# Altium schematic symbol library Ancient Schematics.SchLib: 609 symbols (part 1 of 3)
Pins are listed as number, name and electrical type; pins without a type are passive.

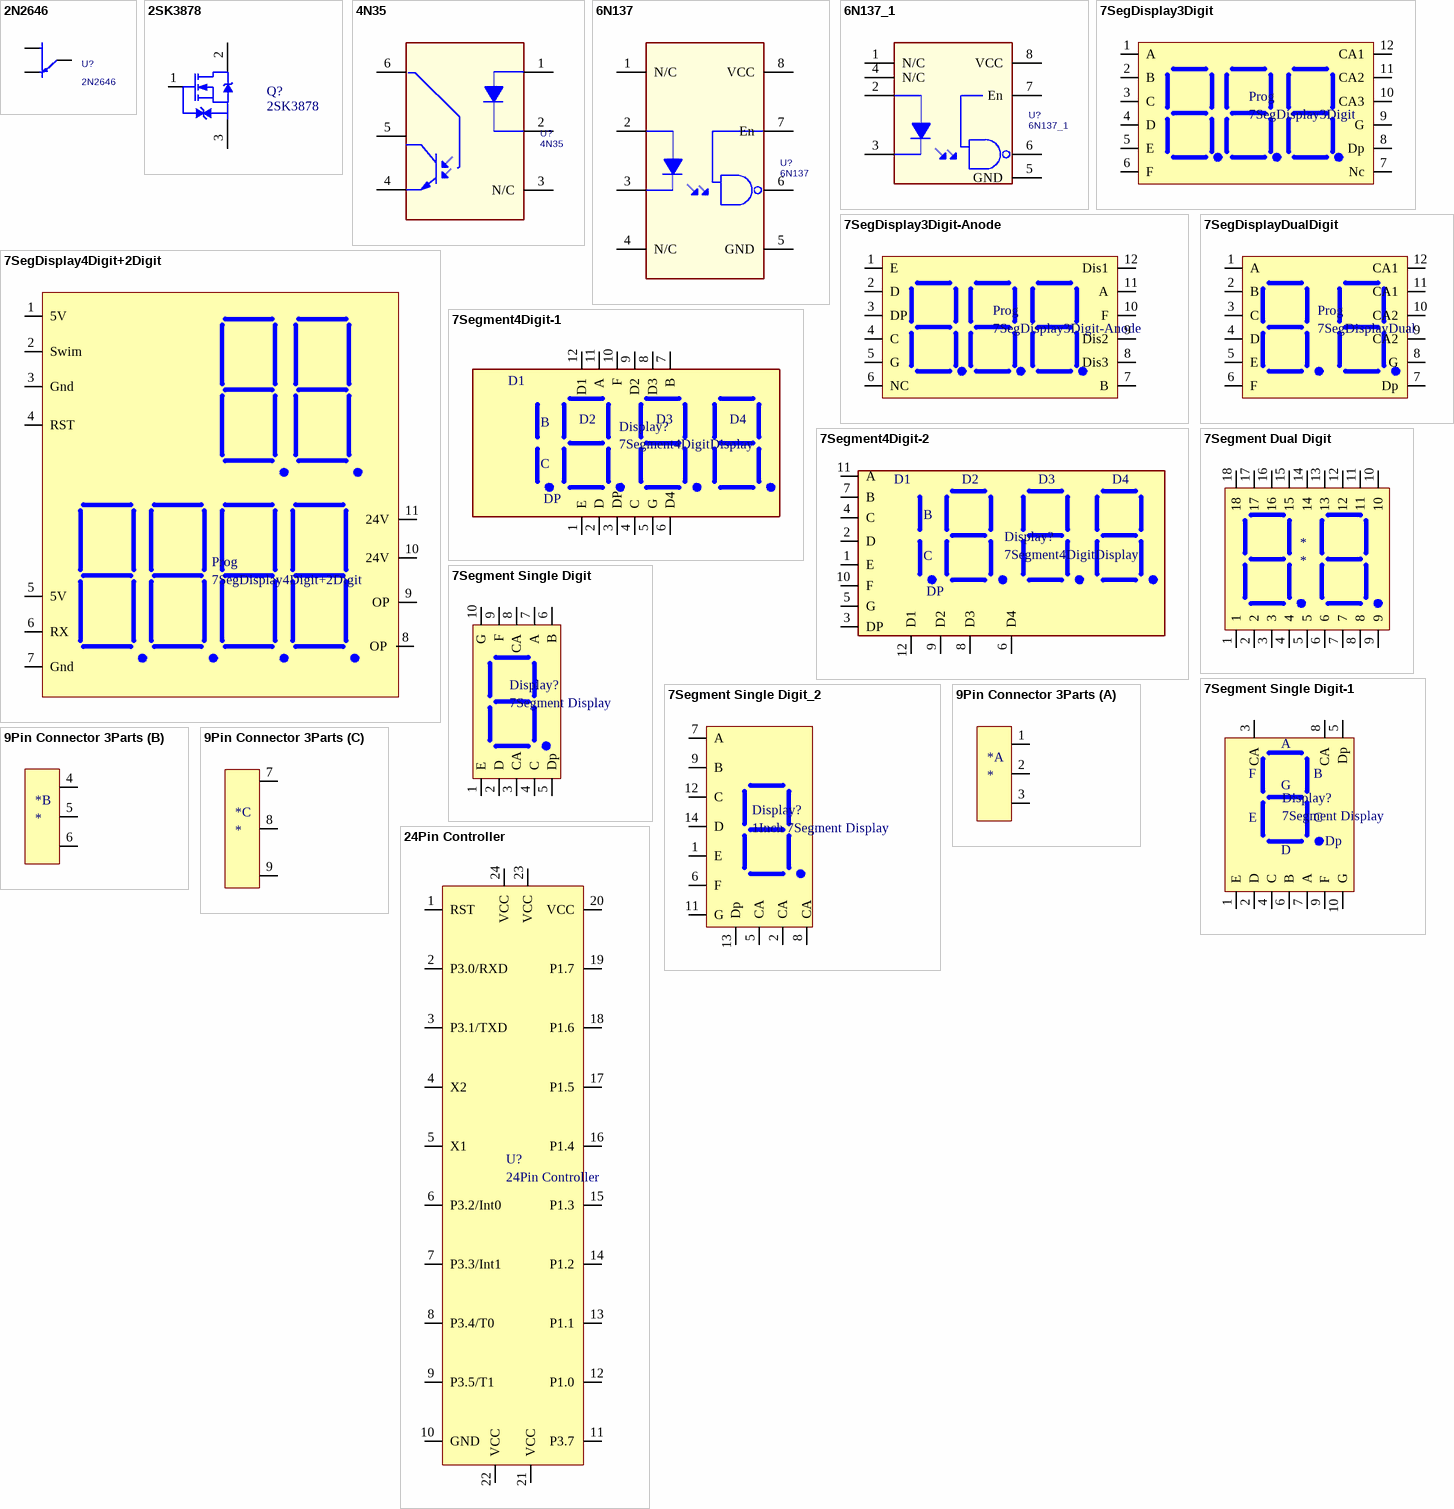
[diagram p0: symbols 2N2646 to 24Pin Controller]

## 2N2646
designator U?
footprint 2N2646 (2N2646 UJT)
pins: 1 EMITTER, 2 Base1, 3 Base2

## 2SK3878
designator Q?
2SK3878-High Voltage N Channel MOSFET
pins: 1 G, 2 D, 3 S

## 4N35
designator U?
pins: 1 A, 2 C, 3 N/C, 4 EMIT, 5 COL, 6 Base

## 6N137
designator U?
pins: 1 N/C, 2 C, 3 A, 4 N/C, 5 GND, 6 Base, 7 En, 8 VCC

## 6N137_1
designator U?
footprint Dip-8
pins: 1 N/C, 2 C, 3 A, 4 N/C, 5 GND, 6 Base, 7 En, 8 VCC

## 7SegDisplay3Digit
designator Prog
footprint 7Sigment3Digit (Footprint not found)
pins: 1 A, 2 B, 3 C, 4 D, 5 E, 6 F, 7 Nc, 8 Dp, 9 G, 10 CA3, 11 CA2, 12 CA1

## 7SegDisplay3Digit-Anode
designator Prog
footprint 7Seg3Digit-A (7Seg3Digit 38MM X 19MM)
pins: 1 E, 2 D, 3 DP, 4 C, 5 G, 6 NC, 7 B, 8 Dis3, 9 Dis2, 10 F, 11 A, 12 Dis1

## 7SegDisplay4Digit+2Digit
designator Prog
footprint MT318-7Seg4Digit+2Digit
pins: 1 5V, 2 Swim, 3 Gnd, 4 RST, 5 5V, 6 RX, 7 Gnd, 8 OP, 9 OP, 10 24V, 11 24V

## 7SegDisplayDualDigit
designator Prog, comment 7SegDisplayDual
footprint 7SigmentSingleDisplay
pins: 1 A, 2 B, 3 C, 4 D, 5 E, 6 F, 7 Dp, 8 G, 9 CA2, 10 CA2, 11 CA1, 12 CA1

## 7Segment4Digit-1
designator Display?, comment 7Segment4DigitDisplay
pins: 1 E, 2 D, 3 DP, 4 C, 5 G, 6 D4, 7 B, 8 D3, 9 D2, 10 F, 11 A, 12 D1

## 7Segment4Digit-2
designator Display?, comment 7Segment4DigitDisplay
pins: 1 E, 2 D, 3 DP, 4 C, 5 G, 6 D4, 7 B, 8 D3, 9 D2, 10 F, 11 A, 12 D1

## 7Segment Dual Digit
designator *
pins: 1, 2, 3, 4, 5, 6, 7, 8, 9, 10, 11, 12, 13, 14, 15, 16, 17, 18

## 7Segment Single Digit
designator Display?, comment 7Segment Display
pins: 1 E, 2 D, 3 CA, 4 C, 5 Dp, 6 B, 7 A, 8 CA, 9 F, 10 G

## 7Segment Single Digit-1
designator Display?, comment 7Segment Display
pins: 1 E, 2 D, 3 CA, 4 C, 5 Dp, 6 B, 7 A, 8 CA, 9 F, 10 G

## 7Segment Single Digit_2
designator Display?, comment 1Inch 7Segment Display
footprint 7Seg-1Inch - 1 (7Seg-1Inch (Big Display))
pins: 1 E, 2 CA, 5 CA, 6 F, 7 A, 8 CA, 9 B, 11 G, 12 C, 13 Dp, 14 D

## 9Pin Connector 3Parts
designator *
part A pins: 1, 2, 3
part B pins: 4, 5, 6
part C pins: 7, 8, 9

## 24Pin Controller
designator U?
footprint Dip-24 (IC Base 24Pin)
pins: 1 RST, 2 P3.0/RXD, 3 P3.1/TXD, 4 X2, 5 X1, 6 P3.2/Int0, 7 P3.3/Int1, 8 P3.4/T0, 9 P3.5/T1, 10 GND, 11 P3.7, 12 P1.0, 13 P1.1, 14 P1.2, 15 P1.3, 16 P1.4, 17 P1.5, 18 P1.6, 19 P1.7, 20 VCC, 21 VCC, 22 VCC, 23 VCC, 24 VCC

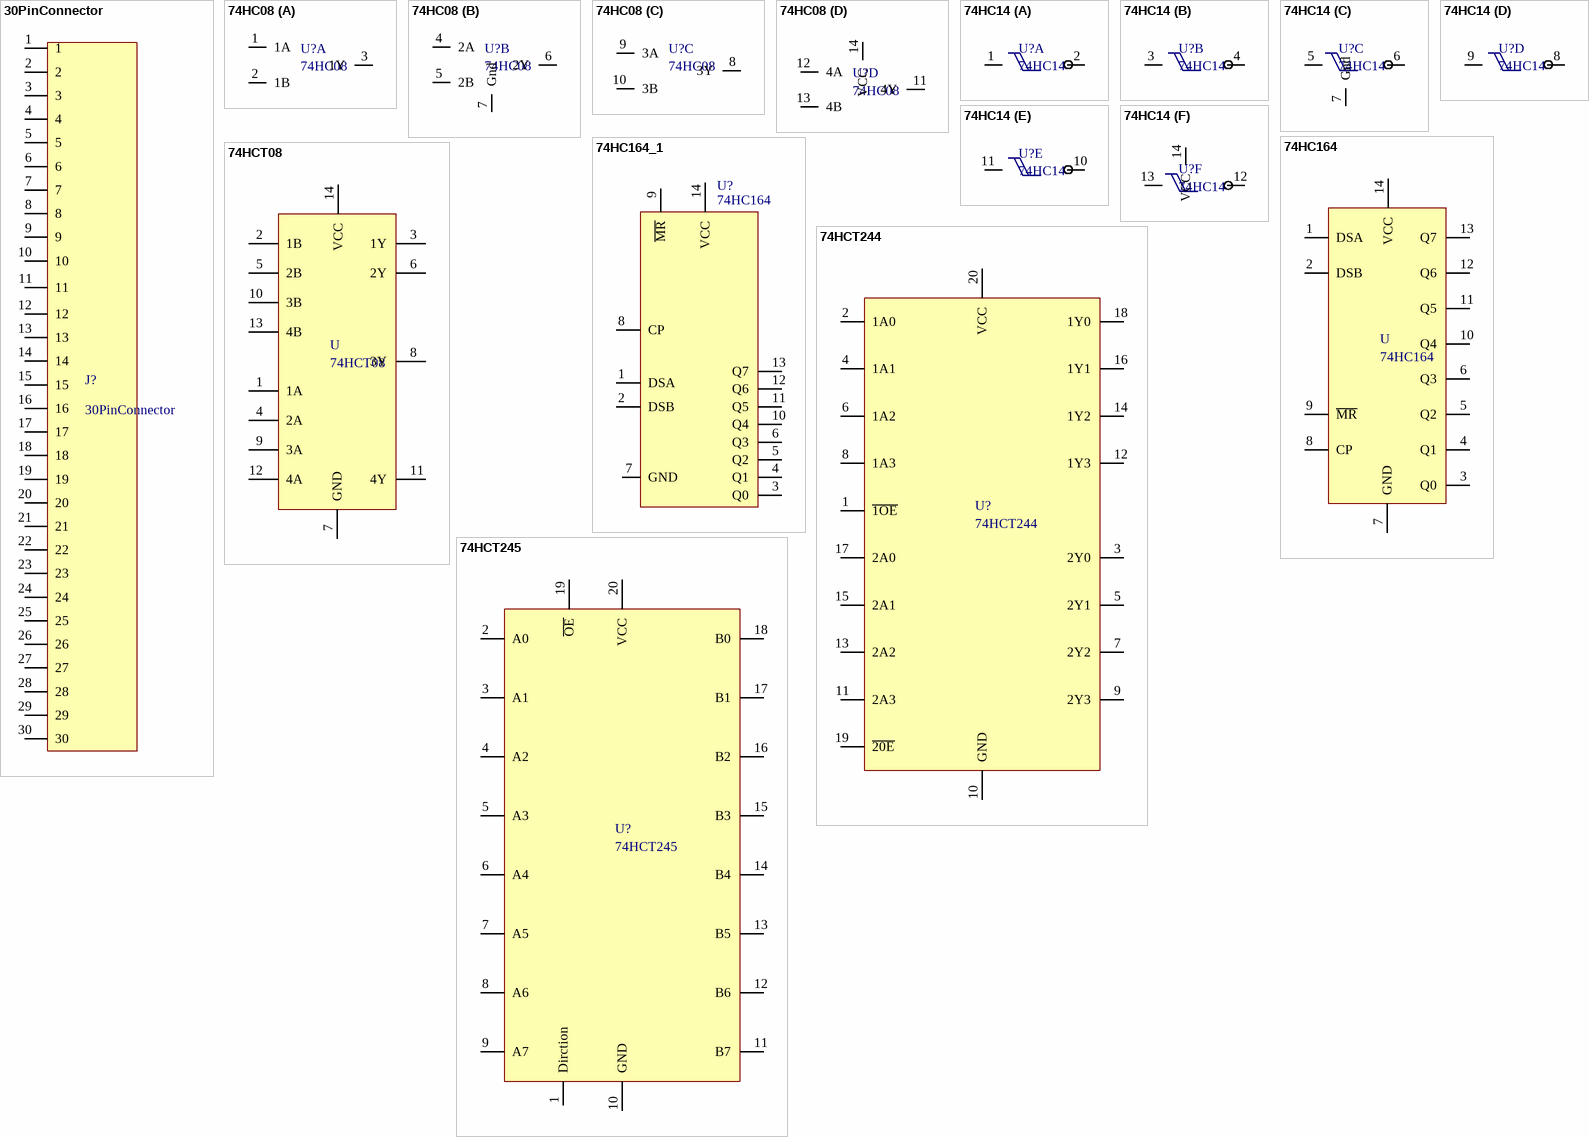
[diagram p1: symbols 30PinConnector to 74HCT245]

## 30PinConnector
designator J?
pins: 1, 2, 3, 4, 5, 6, 7, 8, 9, 10, 11, 12, 13, 14, 15, 16, 17, 18, 19, 20, 21, 22, 23, 24, 25, 26, 27, 28, 29, 30

## 74HC08
designator U?
footprint SOP-14
part A pins: 1 1A, 2 1B, 3 1Y
part B pins: 4 2A, 5 2B, 6 2Y, 7 Gnd
part C pins: 8 3Y, 9 3A, 10 3B
part D pins: 11 4Y, 12 4A, 13 4B, 14 VCC

## 74HC14
designator U?
footprint SOP-14
part A pins: 1, 2
part B pins: 3, 4
part C pins: 5, 6, 7 Gnd
part D pins: 8, 9
part E pins: 10, 11
part F pins: 12, 13, 14 VCC

## 74HC164
designator U
pins: 1 DSA, 2 DSB, 3 Q0, 4 Q1, 5 Q2, 6 Q3, 7 GND, 8 CP, 9 ~{MR}, 10 Q4, 11 Q5, 12 Q6, 13 Q7, 14 VCC

## 74HC164_1
designator U?, comment 74HC164
footprint SOP-14
pins: 1 DSA, 2 DSB, 3 Q0, 4 Q1, 5 Q2, 6 Q3, 7 GND, 8 CP, 9 ~{MR}, 10 Q4, 11 Q5, 12 Q6, 13 Q7, 14 VCC

## 74HCT08
designator U
pins: 1 1A, 2 1B, 3 1Y, 4 2A, 5 2B, 6 2Y, 7 GND, 8 3Y, 9 3A, 10 3B, 11 4Y, 12 4A, 13 4B, 14 VCC

## 74HCT244
designator U?
pins: 1 ~{1OE}, 2 1A0, 3 2Y0, 4 1A1, 5 2Y1, 6 1A2, 7 2Y2, 8 1A3, 9 2Y3, 10 GND, 11 2A3, 12 1Y3, 13 2A2, 14 1Y2, 15 2A1, 16 1Y1, 17 2A0, 18 1Y0, 19 ~{20E}, 20 VCC

## 74HCT245
designator U?
pins: 1 Dirction, 2 A0, 3 A1, 4 A2, 5 A3, 6 A4, 7 A5, 8 A6, 9 A7, 10 GND, 11 B7, 12 B6, 13 B5, 14 B4, 15 B3, 16 B2, 17 B1, 18 B0, 19 ~{OE}, 20 VCC

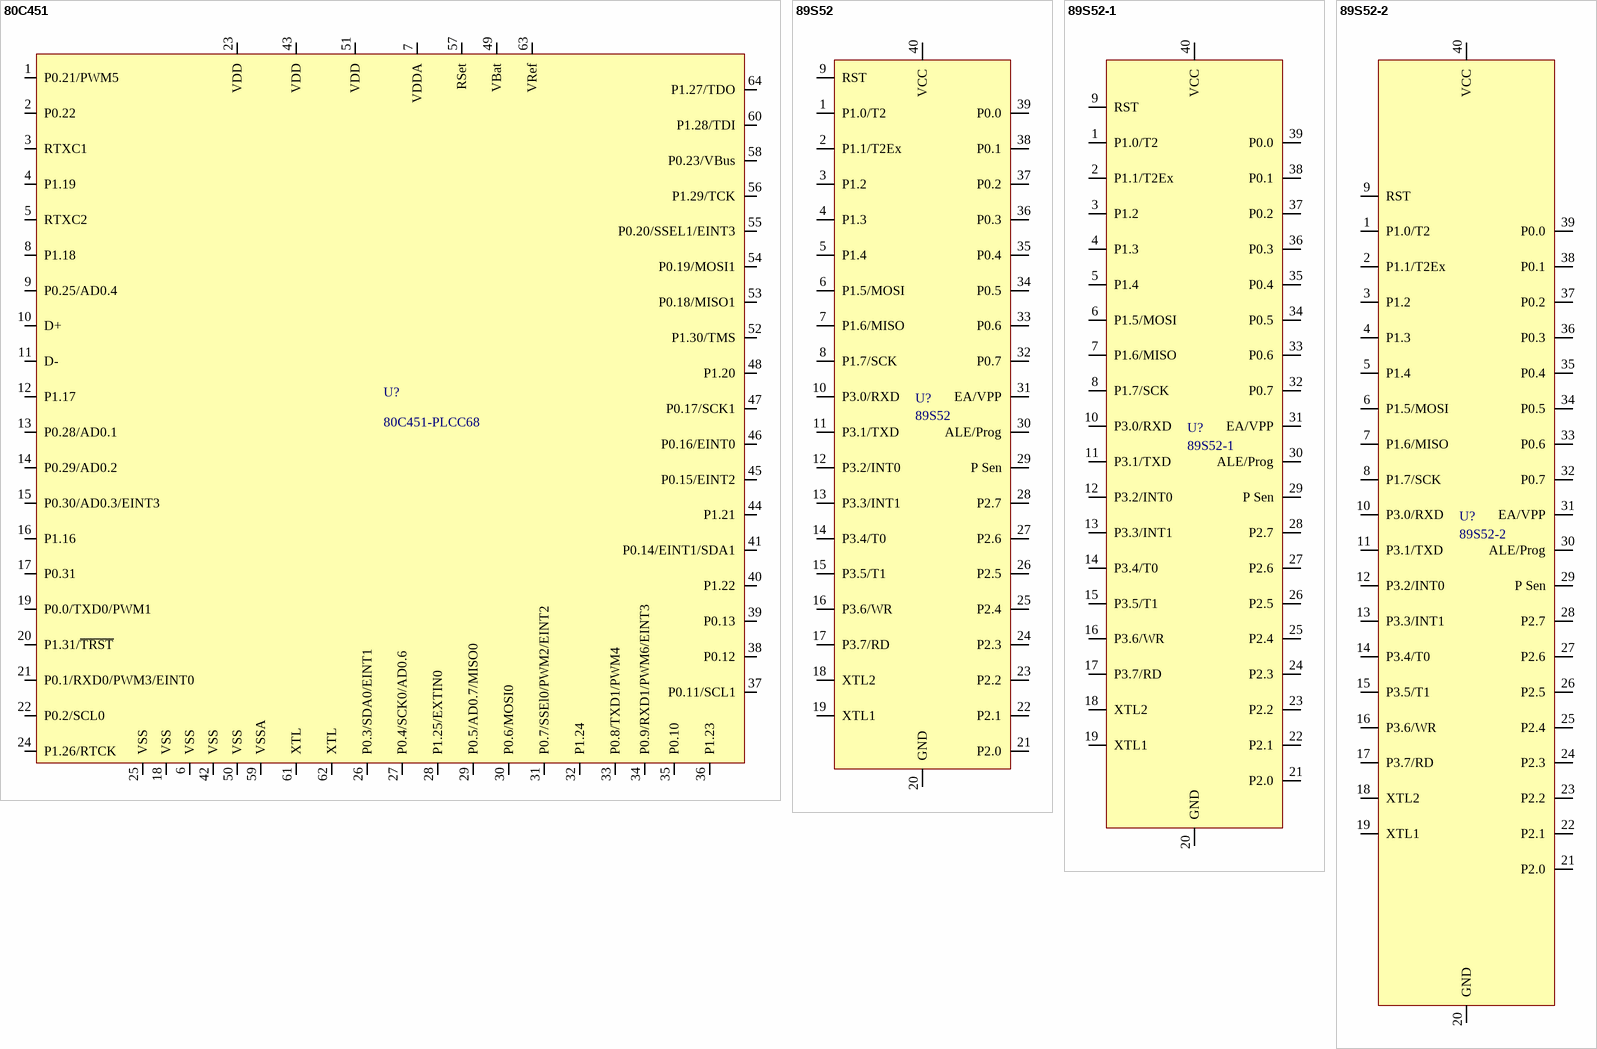
[diagram p2: symbols 80C451 to 89S52-2]

## 80C451
designator U?, comment 80C451-PLCC68
pins: 1 P0.21/PWM5, 2 P0.22, 3 RTXC1, 4 P1.19, 5 RTXC2, 6 VSS, 7 VDDA, 8 P1.18, 9 P0.25/AD0.4, 10 D+, 11 D-, 12 P1.17, 13 P0.28/AD0.1, 14 P0.29/AD0.2, 15 P0.30/AD0.3/EINT3, 16 P1.16, 17 P0.31, 18 VSS, 19 P0.0/TXD0/PWM1, 20 P1.31/~{TRST}, 21 P0.1/RXD0/PWM3/EINT0, 22 P0.2/SCL0, 23 VDD, 24 P1.26/RTCK, 25 VSS, 26 P0.3/SDA0/EINT1, 27 P0.4/SCK0/AD0.6, 28 P1.25/EXTIN0, 29 P0.5/AD0.7/MISO0, 30 P0.6/MOSI0, 31 P0.7/SSEl0/PWM2/EINT2, 32 P1.24, 33 P0.8/TXD1/PWM4, 34 P0.9/RXD1/PWM6/EINT3, 35 P0.10, 36 P1.23, 37 P0.11/SCL1, 38 P0.12, 39 P0.13, 40 P1.22, 41 P0.14/EINT1/SDA1, 42 VSS, 43 VDD, 44 P1.21, 45 P0.15/EINT2, 46 P0.16/EINT0, 47 P0.17/SCK1, 48 P1.20, 49 VBat, 50 VSS, 51 VDD, 52 P1.30/TMS, 53 P0.18/MISO1, 54 P0.19/MOSI1, 55 P0.20/SSEL1/EINT3, 56 P1.29/TCK, 57 RSet, 58 P0.23/VBus, 59 VSSA, 60 P1.28/TDI, 61 XTL, 62 XTL, 63 VRef, 64 P1.27/TDO

## 89S52
designator U?
footprint DIP-40
pins: 1 P1.0/T2, 2 P1.1/T2Ex, 3 P1.2, 4 P1.3, 5 P1.4, 6 P1.5/MOSI, 7 P1.6/MISO, 8 P1.7/SCK, 9 RST, 10 P3.0/RXD, 11 P3.1/TXD, 12 P3.2/INT0, 13 P3.3/INT1, 14 P3.4/T0, 15 P3.5/T1, 16 P3.6/WR, 17 P3.7/RD, 18 XTL2, 19 XTL1, 20 GND, 21 P2.0, 22 P2.1, 23 P2.2, 24 P2.3, 25 P2.4, 26 P2.5, 27 P2.6, 28 P2.7, 29 P Sen, 30 ALE/Prog, 31 EA/VPP, 32 P0.7, 33 P0.6, 34 P0.5, 35 P0.4, 36 P0.3, 37 P0.2, 38 P0.1, 39 P0.0, 40 VCC

## 89S52-1
designator U?
footprint DIP-40
pins: 1 P1.0/T2, 2 P1.1/T2Ex, 3 P1.2, 4 P1.3, 5 P1.4, 6 P1.5/MOSI, 7 P1.6/MISO, 8 P1.7/SCK, 9 RST, 10 P3.0/RXD, 11 P3.1/TXD, 12 P3.2/INT0, 13 P3.3/INT1, 14 P3.4/T0, 15 P3.5/T1, 16 P3.6/WR, 17 P3.7/RD, 18 XTL2, 19 XTL1, 20 GND, 21 P2.0, 22 P2.1, 23 P2.2, 24 P2.3, 25 P2.4, 26 P2.5, 27 P2.6, 28 P2.7, 29 P Sen, 30 ALE/Prog, 31 EA/VPP, 32 P0.7, 33 P0.6, 34 P0.5, 35 P0.4, 36 P0.3, 37 P0.2, 38 P0.1, 39 P0.0, 40 VCC

## 89S52-2
designator U?
footprint DIP-40
pins: 1 P1.0/T2, 2 P1.1/T2Ex, 3 P1.2, 4 P1.3, 5 P1.4, 6 P1.5/MOSI, 7 P1.6/MISO, 8 P1.7/SCK, 9 RST, 10 P3.0/RXD, 11 P3.1/TXD, 12 P3.2/INT0, 13 P3.3/INT1, 14 P3.4/T0, 15 P3.5/T1, 16 P3.6/WR, 17 P3.7/RD, 18 XTL2, 19 XTL1, 20 GND, 21 P2.0, 22 P2.1, 23 P2.2, 24 P2.3, 25 P2.4, 26 P2.5, 27 P2.6, 28 P2.7, 29 P Sen, 30 ALE/Prog, 31 EA/VPP, 32 P0.7, 33 P0.6, 34 P0.5, 35 P0.4, 36 P0.3, 37 P0.2, 38 P0.1, 39 P0.0, 40 VCC

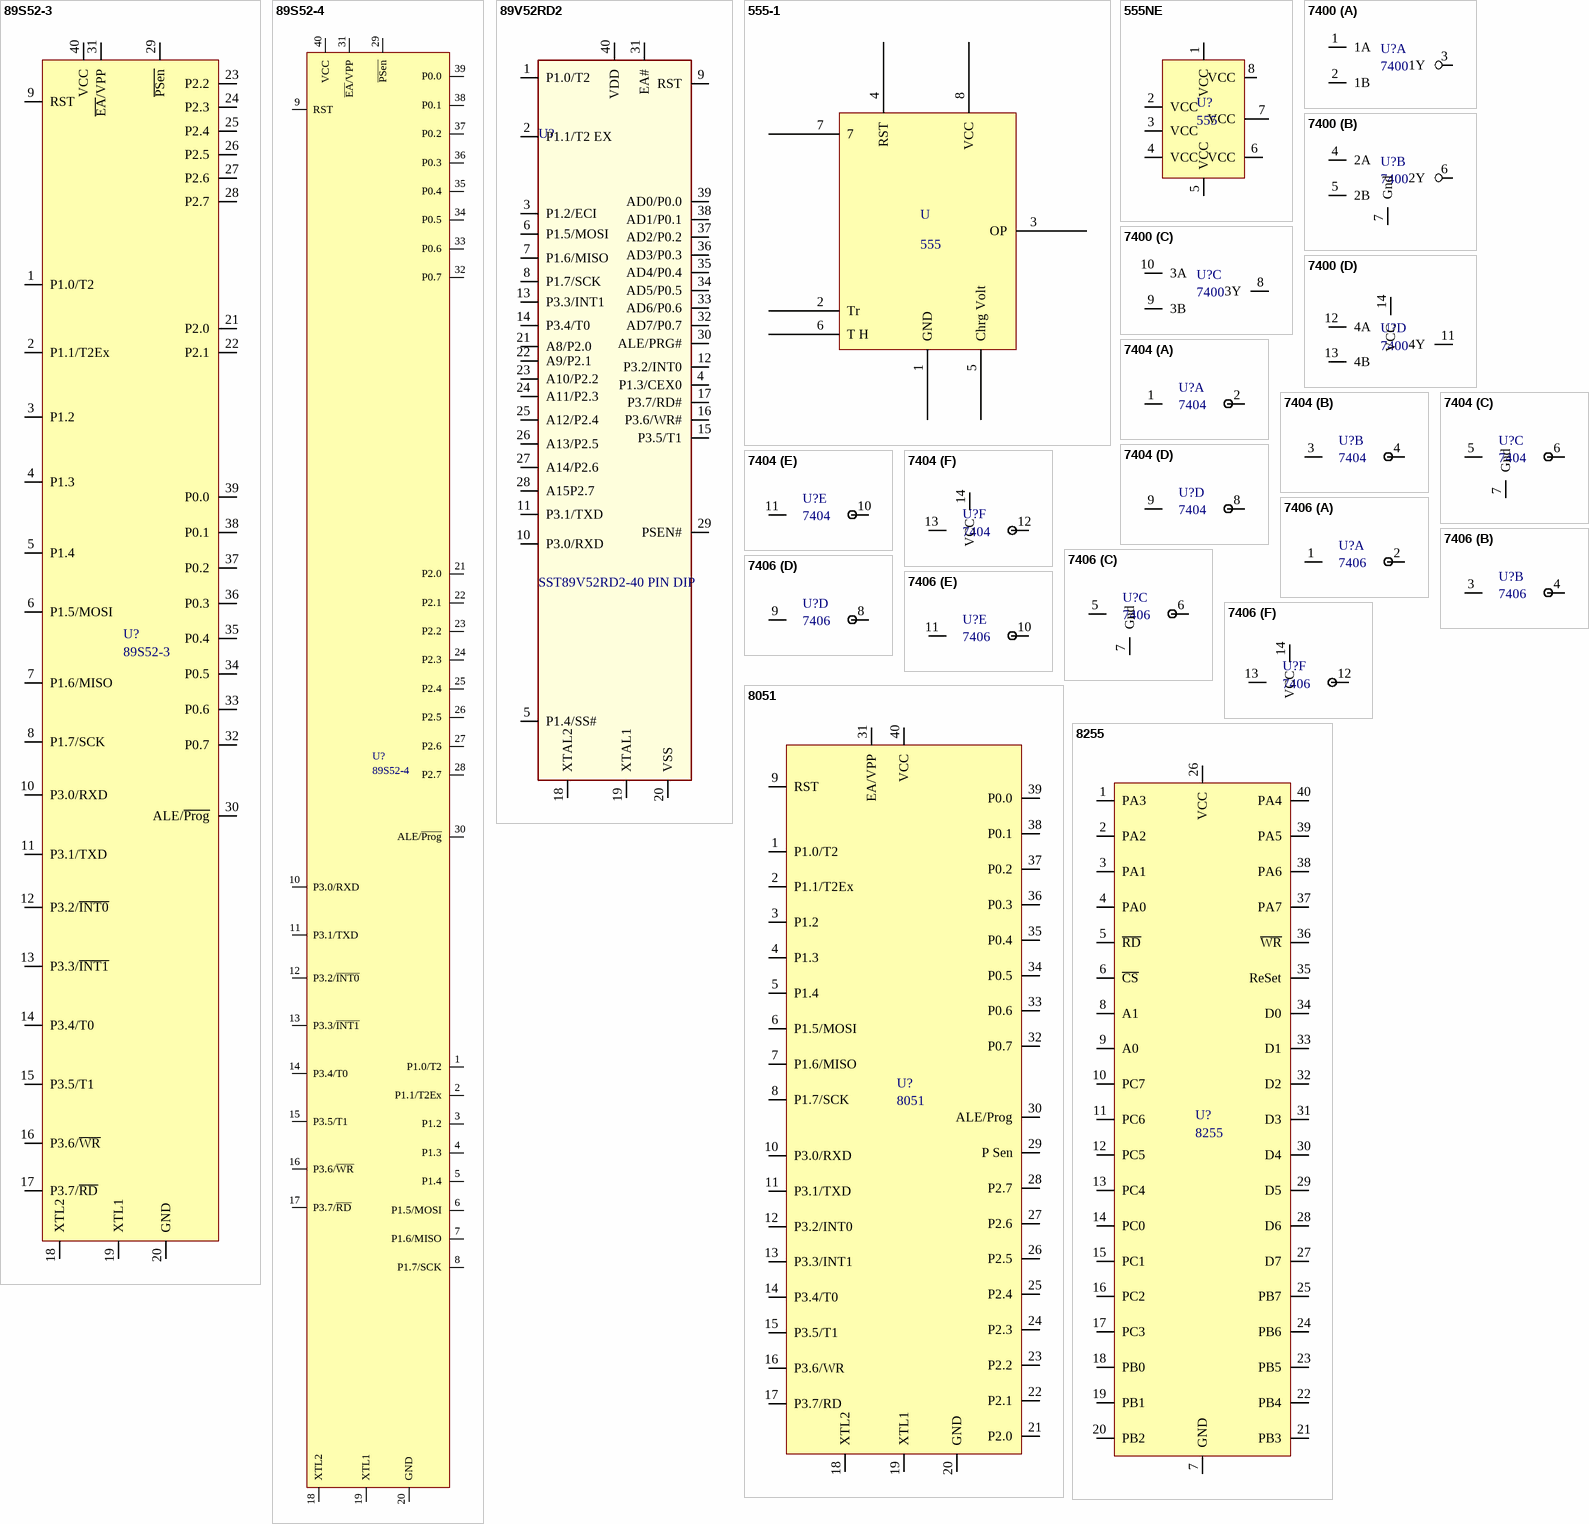
[diagram p3: symbols 89S52-3 to 8255]

## 89S52-3
designator U?
footprint DIP-40
pins: 1 P1.0/T2, 2 P1.1/T2Ex, 3 P1.2, 4 P1.3, 5 P1.4, 6 P1.5/MOSI, 7 P1.6/MISO, 8 P1.7/SCK, 9 RST, 10 P3.0/RXD, 11 P3.1/TXD, 12 P3.2/~{INT0}, 13 P3.3/~{INT1}, 14 P3.4/T0, 15 P3.5/T1, 16 P3.6/~{WR}, 17 P3.7/~{RD}, 18 XTL2, 19 XTL1, 20 GND, 21 P2.0, 22 P2.1, 23 P2.2, 24 P2.3, 25 P2.4, 26 P2.5, 27 P2.6, 28 P2.7, 29 ~{PSen}, 30 ALE/~{Prog}, 31 ~{EA}/VPP, 32 P0.7, 33 P0.6, 34 P0.5, 35 P0.4, 36 P0.3, 37 P0.2, 38 P0.1, 39 P0.0, 40 VCC

## 89S52-4
designator U?
footprint DIP-40
pins: 1 P1.0/T2, 2 P1.1/T2Ex, 3 P1.2, 4 P1.3, 5 P1.4, 6 P1.5/MOSI, 7 P1.6/MISO, 8 P1.7/SCK, 9 RST, 10 P3.0/RXD, 11 P3.1/TXD, 12 P3.2/~{INT0}, 13 P3.3/~{INT1}, 14 P3.4/T0, 15 P3.5/T1, 16 P3.6/~{WR}, 17 P3.7/~{RD}, 18 XTL2, 19 XTL1, 20 GND, 21 P2.0, 22 P2.1, 23 P2.2, 24 P2.3, 25 P2.4, 26 P2.5, 27 P2.6, 28 P2.7, 29 ~{PSen}, 30 ALE/~{Prog}, 31 ~{EA}/VPP, 32 P0.7, 33 P0.6, 34 P0.5, 35 P0.4, 36 P0.3, 37 P0.2, 38 P0.1, 39 P0.0, 40 VCC

## 89V52RD2
designator U?, comment SST89V52RD2-40 PIN DIP
footprint DIP-40
pins: 1 P1.0/T2, 2 P1.1/T2 EX, 3 P1.2/ECI, 4 P1.3/CEX0, 5 P1.4/SS#, 6 P1.5/MOSI, 7 P1.6/MISO, 8 P1.7/SCK, 9 RST, 10 P3.0/RXD, 11 P3.1/TXD, 12 P3.2/INT0, 13 P3.3/INT1, 14 P3.4/T0, 15 P3.5/T1, 16 P3.6/WR#, 17 P3.7/RD#, 18 XTAL2, 19 XTAL1, 20 VSS, 21 A8/P2.0, 22 A9/P2.1, 23 A10/P2.2, 24 A11/P2.3, 25 A12/P2.4, 26 A13/P2.5, 27 A14/P2.6, 28 A15P2.7, 29 PSEN#, 30 ALE/PRG#, 31 EA#, 32 AD7/P0.7, 33 AD6/P0.6, 34 AD5/P0.5, 35 AD4/P0.4, 36 AD3/P0.3, 37 AD2/P0.2, 38 AD1/P0.1, 39 AD0/P0.0, 40 VDD

## 555-1
designator U, comment 555
pins: 1 GND, 2 Tr, 3 OP, 4 RST, 5 Chrg Volt, 6 T H, 7, 8 VCC

## 555NE
designator U?, comment 555
footprint Dip-8
footprint SOP-8 (SOP-8 ,1232,24C256)
pins: 1 VCC, 2 VCC, 3 VCC, 4 VCC, 5 VCC, 6 VCC, 7 VCC, 8 VCC

## 7400
designator U?
footprint SOP-14
part A pins: 1 1A, 2 1B, 3 1Y
part B pins: 4 2A, 5 2B, 6 2Y, 7 Gnd
part C pins: 8 3Y, 9 3B, 10 3A
part D pins: 11 4Y, 12 4A, 13 4B, 14 VCC

## 7404
designator U?
footprint SOP-14
part A pins: 1, 2
part B pins: 3, 4
part C pins: 5, 6, 7 Gnd
part D pins: 8, 9
part E pins: 10, 11
part F pins: 12, 13, 14 VCC

## 7406
designator U?
footprint SOP-14
part A pins: 1, 2
part B pins: 3, 4
part C pins: 5, 6, 7 Gnd
part D pins: 8, 9
part E pins: 10, 11
part F pins: 12, 13, 14 VCC

## 8051
designator U?
footprint DIP-40
pins: 1 P1.0/T2, 2 P1.1/T2Ex, 3 P1.2, 4 P1.3, 5 P1.4, 6 P1.5/MOSI, 7 P1.6/MISO, 8 P1.7/SCK, 9 RST, 10 P3.0/RXD, 11 P3.1/TXD, 12 P3.2/INT0, 13 P3.3/INT1, 14 P3.4/T0, 15 P3.5/T1, 16 P3.6/WR, 17 P3.7/RD, 18 XTL2, 19 XTL1, 20 GND, 21 P2.0, 22 P2.1, 23 P2.2, 24 P2.3, 25 P2.4, 26 P2.5, 27 P2.6, 28 P2.7, 29 P Sen, 30 ALE/Prog, 31 EA/VPP, 32 P0.7, 33 P0.6, 34 P0.5, 35 P0.4, 36 P0.3, 37 P0.2, 38 P0.1, 39 P0.0, 40 VCC

## 8255
designator U?
footprint DIP-40
pins: 1 PA3, 2 PA2, 3 PA1, 4 PA0, 5 ~{RD}, 6 ~{CS}, 7 GND, 8 A1, 9 A0, 10 PC7, 11 PC6, 12 PC5, 13 PC4, 14 PC0, 15 PC1, 16 PC2, 17 PC3, 18 PB0, 19 PB1, 20 PB2, 21 PB3, 22 PB4, 23 PB5, 24 PB6, 25 PB7, 26 VCC, 27 D7, 28 D6, 29 D5, 30 D4, 31 D3, 32 D2, 33 D1, 34 D0, 35 ReSet, 36 ~{WR}, 37 PA7, 38 PA6, 39 PA5, 40 PA4

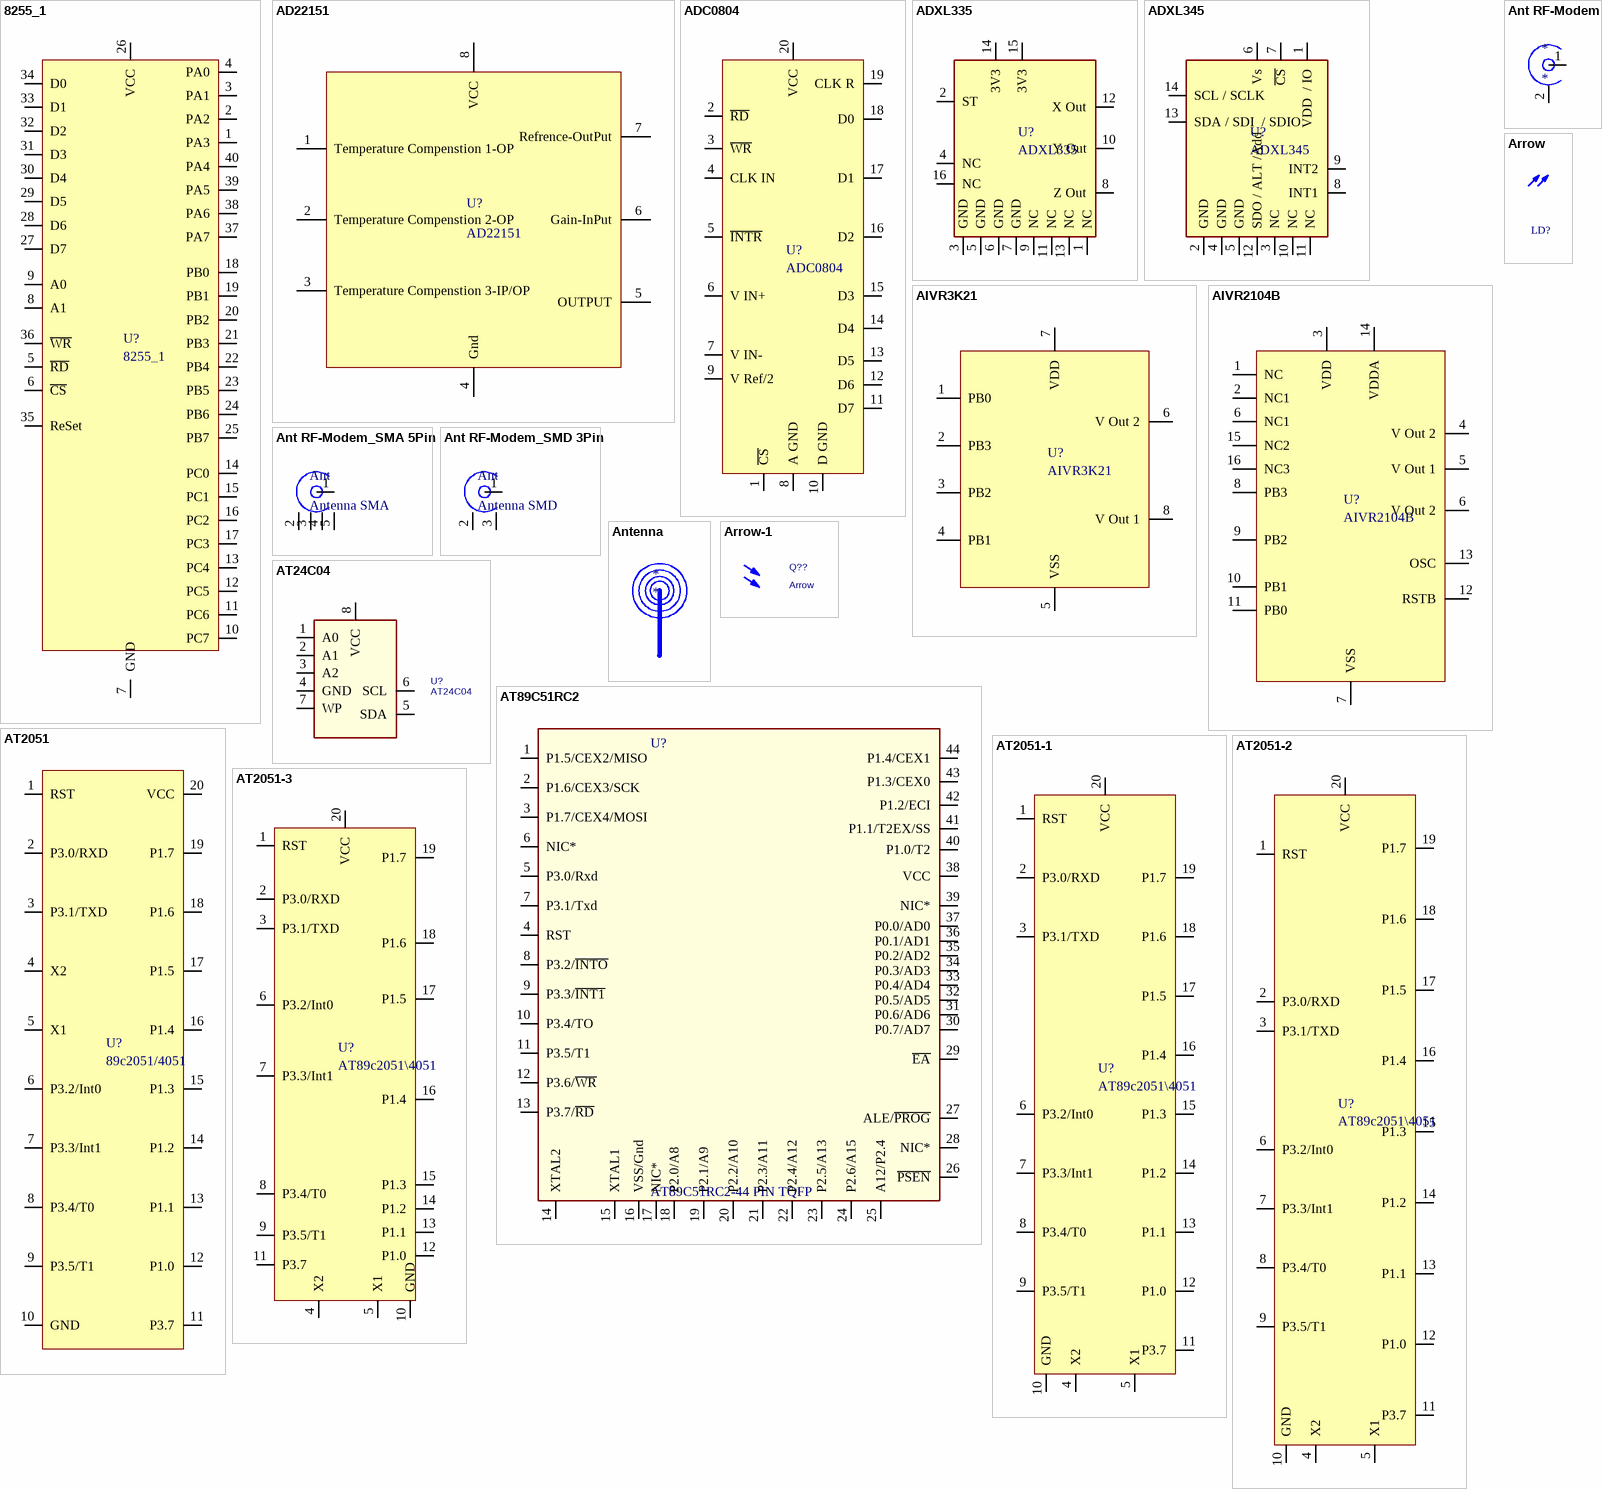
[diagram p4: symbols 8255_1 to AT2051-3]

## 8255_1
designator U?
footprint DIP-40
pins: 1 PA3, 2 PA2, 3 PA1, 4 PA0, 5 ~{RD}, 6 ~{CS}, 7 GND, 8 A1, 9 A0, 10 PC7, 11 PC6, 12 PC5, 13 PC4, 14 PC0, 15 PC1, 16 PC2, 17 PC3, 18 PB0, 19 PB1, 20 PB2, 21 PB3, 22 PB4, 23 PB5, 24 PB6, 25 PB7, 26 VCC, 27 D7, 28 D6, 29 D5, 30 D4, 31 D3, 32 D2, 33 D1, 34 D0, 35 ReSet, 36 ~{WR}, 37 PA7, 38 PA6, 39 PA5, 40 PA4

## AD22151
designator U?
footprint sop-8 (SOP-8 ,1232,24C256)
pins: 1 Temperature Compenstion 1-OP, 2 Temperature Compenstion 2-OP, 3 Temperature Compenstion 3-IP/OP, 4 Gnd, 5 OUTPUT, 6 Gain-InPut, 7 Refrence-OutPut, 8 VCC

## ADC0804
designator U?
footprint Dip-20 (IC Base 20Pin)
pins: 1 ~{CS}, 2 ~{RD}, 3 ~{WR}, 4 CLK IN, 5 ~{INTR}, 6 V IN+, 7 V IN-, 8 A GND, 9 V Ref/2, 10 D GND, 11 D7, 12 D6, 13 D5, 14 D4, 15 D3, 16 D2, 17 D1, 18 D0, 19 CLK R, 20 VCC

## ADXL335
designator U?
pins: 1 NC, 2 ST, 3 GND, 4 NC, 5 GND, 6 GND, 7 GND, 8 Z Out, 9 NC, 10 Y Out, 11 NC, 12 X Out, 13 NC, 14 3V3, 15 3V3, 16 NC

## ADXL345
designator U?
pins: 1 VDD  / IO, 2 GND, 3 NC, 4 GND, 5 GND, 6 Vs, 7 ~{CS}, 8 INT1, 9 INT2, 10 NC, 11 NC, 12 SDO / ALT /Add, 13 SDA / SDI  / SDIO, 14 SCL / SCLK

## AIVR3K21
designator U?
footprint Dip-8
pins: 1 PB0, 2 PB3, 3 PB2, 4 PB1, 5 VSS, 6 V Out 2, 7 VDD, 8 V Out 1

## AIVR2104B
designator U?
footprint Dip-16
pins: 1 NC, 2 NC1, 3 VDD, 4 V Out 2, 5 V Out 1, 6 V Out 2, 6 NC1, 7 VSS, 8 PB3, 9 PB2, 10 PB1, 11 PB0, 12 RSTB, 13 OSC, 14 VDDA, 15 NC2, 16 NC3

## Ant RF-Modem
designator *
pins: 1, 2

## Ant RF-Modem_SMA 5Pin
designator Ant, comment Antenna SMA
pins: 1, 2, 3, 4, 5

## Ant RF-Modem_SMD 3Pin
designator Ant, comment Antenna SMD
footprint Ant-SMD 3Pin
pins: 1, 2, 3

## Antenna
designator *

## Arrow
designator LD?  (value not drawn)  (graphical)

## Arrow-1
designator Q??, comment Arrow  (graphical)
PhotoTransistor

## AT24C04
designator U?
I2C
footprint Dip-8
pins: 1 A0, 2 A1, 3 A2, 4 GND, 5 SDA, 6 SCL, 7 WP, 8 VCC

## AT89C51RC2
designator U?, comment AT89C51RC2-44 PIN TQFP
89C51RC2-44 PIN TQFP
footprint TQFP44 (Picth.8MM)
pins: 1 P1.5/CEX2/MISO, 2 P1.6/CEX3/SCK, 3 P1.7/CEX4/MOSI, 4 RST, 5 P3.0/Rxd, 6 NIC*, 7 P3.1/Txd, 8 P3.2/~{INTO}, 9 P3.3/~{INT1}, 10 P3.4/TO, 11 P3.5/T1, 12 P3.6/~{WR}, 13 P3.7/~{RD}, 14 XTAL2, 15 XTAL1, 16 VSS/Gnd, 17 NIC*, 18 P2.0/A8, 19 P2.1/A9, 20 P2.2/A10, 21 P2.3/A11, 22 P2.4/A12, 23 P2.5/A13, 24 P2.6/A15, 25 A12/P2.4, 26 ~{PSEN}, 27 ALE/~{PROG}, 28 NIC*, 29 ~{EA}, 30 P0.7/AD7, 31 P0.6/AD6, 32 P0.5/AD5, 33 P0.4/AD4, 34 P0.3/AD3, 35 P0.2/AD2, 36 P0.1/AD1, 37 P0.0/AD0, 38 VCC, 39 NIC*, 40 P1.0/T2, 41 P1.1/T2EX/SS, 42 P1.2/ECI, 43 P1.3/CEX0, 44 P1.4/CEX1

## AT2051
designator U?, comment 89c2051/4051
footprint Dip-20 (IC Base 20Pin)
pins: 1 RST, 2 P3.0/RXD, 3 P3.1/TXD, 4 X2, 5 X1, 6 P3.2/Int0, 7 P3.3/Int1, 8 P3.4/T0, 9 P3.5/T1, 10 GND, 11 P3.7, 12 P1.0, 13 P1.1, 14 P1.2, 15 P1.3, 16 P1.4, 17 P1.5, 18 P1.6, 19 P1.7, 20 VCC

## AT2051-1
designator U?, comment AT89c2051\4051
footprint Dip-20 (IC Base 20Pin)
pins: 1 RST, 2 P3.0/RXD, 3 P3.1/TXD, 4 X2, 5 X1, 6 P3.2/Int0, 7 P3.3/Int1, 8 P3.4/T0, 9 P3.5/T1, 10 GND, 11 P3.7, 12 P1.0, 13 P1.1, 14 P1.2, 15 P1.3, 16 P1.4, 17 P1.5, 18 P1.6, 19 P1.7, 20 VCC

## AT2051-2
designator U?, comment AT89c2051\4051
footprint Dip-20 (IC Base 20Pin)
pins: 1 RST, 2 P3.0/RXD, 3 P3.1/TXD, 4 X2, 5 X1, 6 P3.2/Int0, 7 P3.3/Int1, 8 P3.4/T0, 9 P3.5/T1, 10 GND, 11 P3.7, 12 P1.0, 13 P1.1, 14 P1.2, 15 P1.3, 16 P1.4, 17 P1.5, 18 P1.6, 19 P1.7, 20 VCC

## AT2051-3
designator U?, comment AT89c2051\4051
footprint Dip-20 (IC Base 20Pin)
pins: 1 RST, 2 P3.0/RXD, 3 P3.1/TXD, 4 X2, 5 X1, 6 P3.2/Int0, 7 P3.3/Int1, 8 P3.4/T0, 9 P3.5/T1, 10 GND, 11 P3.7, 12 P1.0, 13 P1.1, 14 P1.2, 15 P1.3, 16 P1.4, 17 P1.5, 18 P1.6, 19 P1.7, 20 VCC

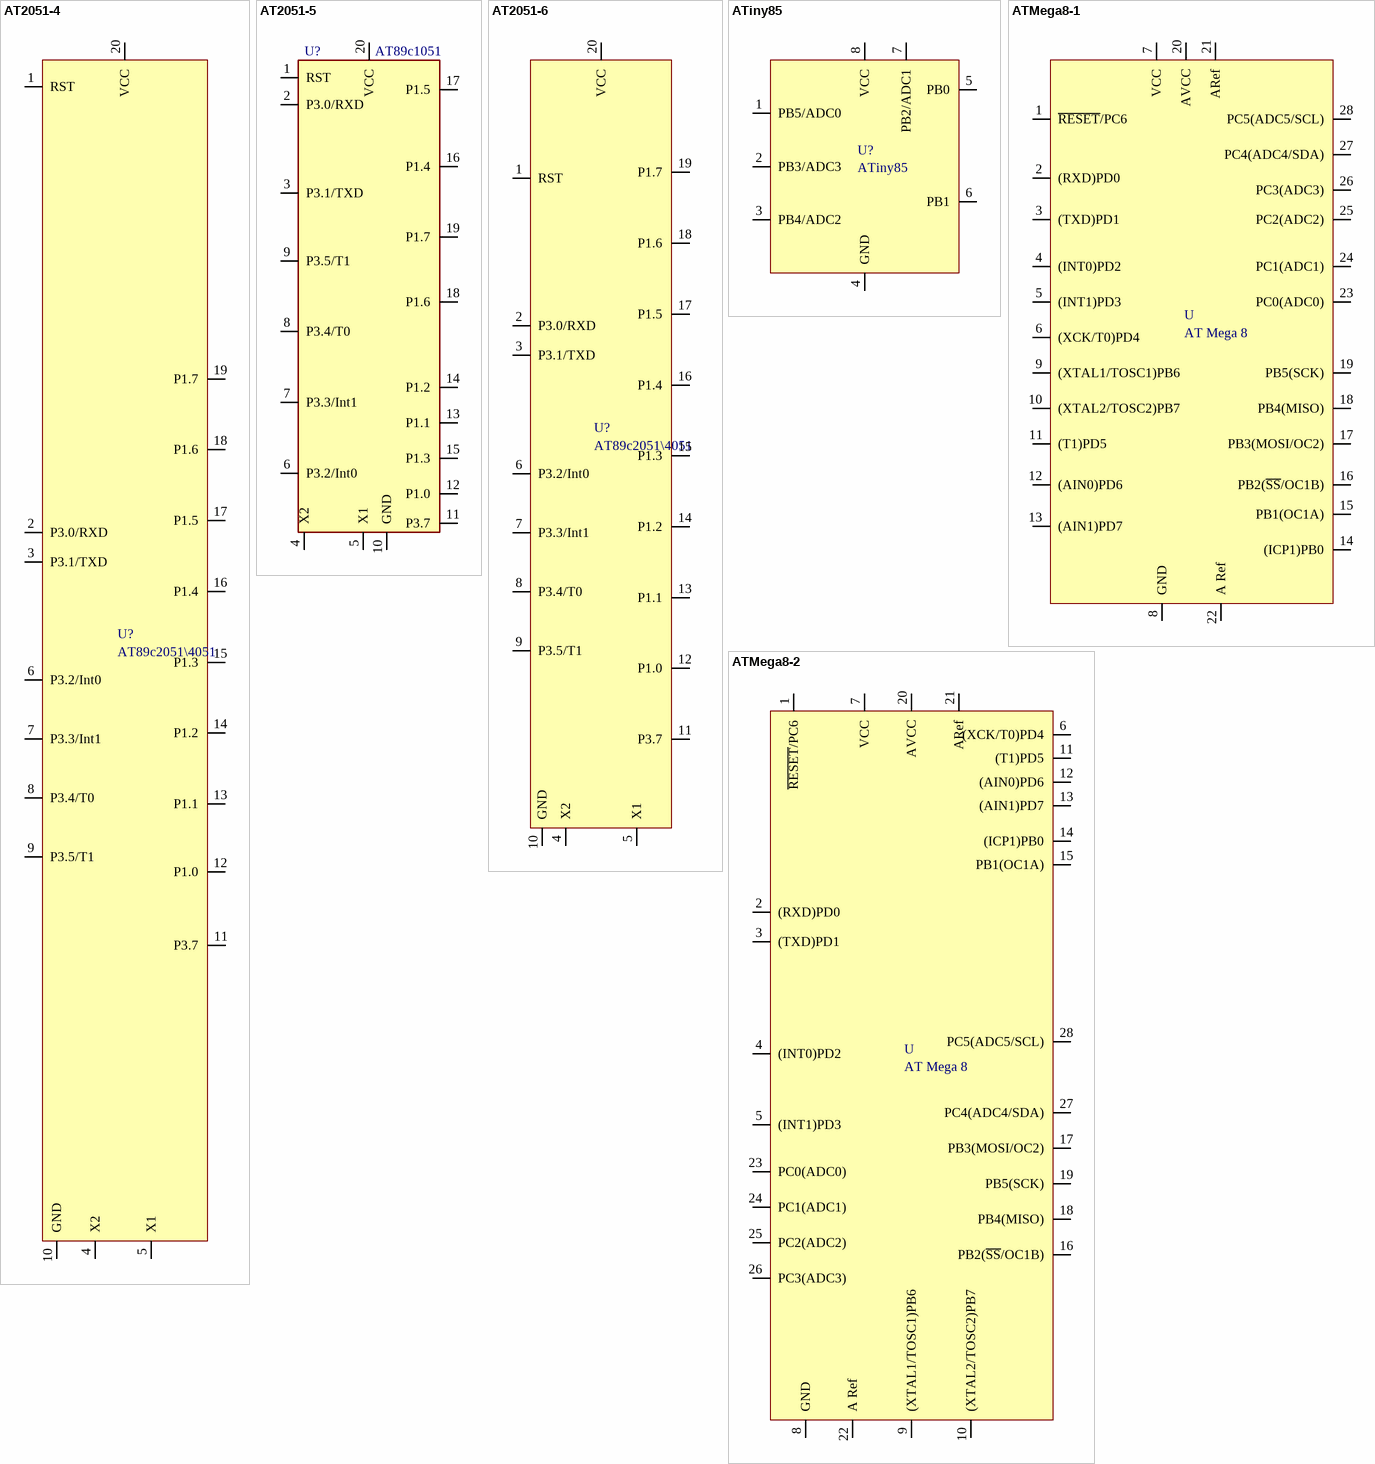
[diagram p5: symbols AT2051-4 to ATMega8-2]

## AT2051-4
designator U?, comment AT89c2051\4051
footprint Dip-20 (IC Base 20Pin)
pins: 1 RST, 2 P3.0/RXD, 3 P3.1/TXD, 4 X2, 5 X1, 6 P3.2/Int0, 7 P3.3/Int1, 8 P3.4/T0, 9 P3.5/T1, 10 GND, 11 P3.7, 12 P1.0, 13 P1.1, 14 P1.2, 15 P1.3, 16 P1.4, 17 P1.5, 18 P1.6, 19 P1.7, 20 VCC

## AT2051-5
designator U?, comment AT89c1051
footprint Dip-20 (IC Base 20Pin)
pins: 1 RST, 2 P3.0/RXD, 3 P3.1/TXD, 4 X2, 5 X1, 6 P3.2/Int0, 7 P3.3/Int1, 8 P3.4/T0, 9 P3.5/T1, 10 GND, 11 P3.7, 12 P1.0, 13 P1.1, 14 P1.2, 15 P1.3, 16 P1.4, 17 P1.5, 18 P1.6, 19 P1.7, 20 VCC

## AT2051-6
designator U?, comment AT89c2051\4051
footprint Dip-20 (IC Base 20Pin)
pins: 1 RST, 2 P3.0/RXD, 3 P3.1/TXD, 4 X2, 5 X1, 6 P3.2/Int0, 7 P3.3/Int1, 8 P3.4/T0, 9 P3.5/T1, 10 GND, 11 P3.7, 12 P1.0, 13 P1.1, 14 P1.2, 15 P1.3, 16 P1.4, 17 P1.5, 18 P1.6, 19 P1.7, 20 VCC

## ATiny85
designator U?
footprint Dip-8
pins: 1 PB5/ADC0, 2 PB3/ADC3, 3 PB4/ADC2, 4 GND, 5 PB0, 6 PB1, 7 PB2/ADC1, 8 VCC

## ATMega8-1
designator U, comment AT Mega 8
footprint Dip-28 (IC Base 28Pin)
pins: 1 ~{RESET}/PC6, 2 (RXD)PD0, 3 (TXD)PD1, 4 (INT0)PD2, 5 (INT1)PD3, 6 (XCK/T0)PD4, 7 VCC, 8 GND, 9 (XTAL1/TOSC1)PB6, 10 (XTAL2/TOSC2)PB7, 11 (T1)PD5, 12 (AIN0)PD6, 13 (AIN1)PD7, 14 (ICP1)PB0, 15 PB1(OC1A), 16 PB2(~{SS}/OC1B), 17 PB3(MOSI/OC2), 18 PB4(MISO), 19 PB5(SCK), 20 AVCC, 21 ARef, 22 A Ref, 23 PC0(ADC0), 24 PC1(ADC1), 25 PC2(ADC2), 26 PC3(ADC3), 27 PC4(ADC4/SDA), 28 PC5(ADC5/SCL)

## ATMega8-2
designator U, comment AT Mega 8
footprint Dip-28 (IC Base 28Pin)
pins: 1 ~{RESET}/PC6, 2 (RXD)PD0, 3 (TXD)PD1, 4 (INT0)PD2, 5 (INT1)PD3, 6 (XCK/T0)PD4, 7 VCC, 8 GND, 9 (XTAL1/TOSC1)PB6, 10 (XTAL2/TOSC2)PB7, 11 (T1)PD5, 12 (AIN0)PD6, 13 (AIN1)PD7, 14 (ICP1)PB0, 15 PB1(OC1A), 16 PB2(~{SS}/OC1B), 17 PB3(MOSI/OC2), 18 PB4(MISO), 19 PB5(SCK), 20 AVCC, 21 ARef, 22 A Ref, 23 PC0(ADC0), 24 PC1(ADC1), 25 PC2(ADC2), 26 PC3(ADC3), 27 PC4(ADC4/SDA), 28 PC5(ADC5/SCL)

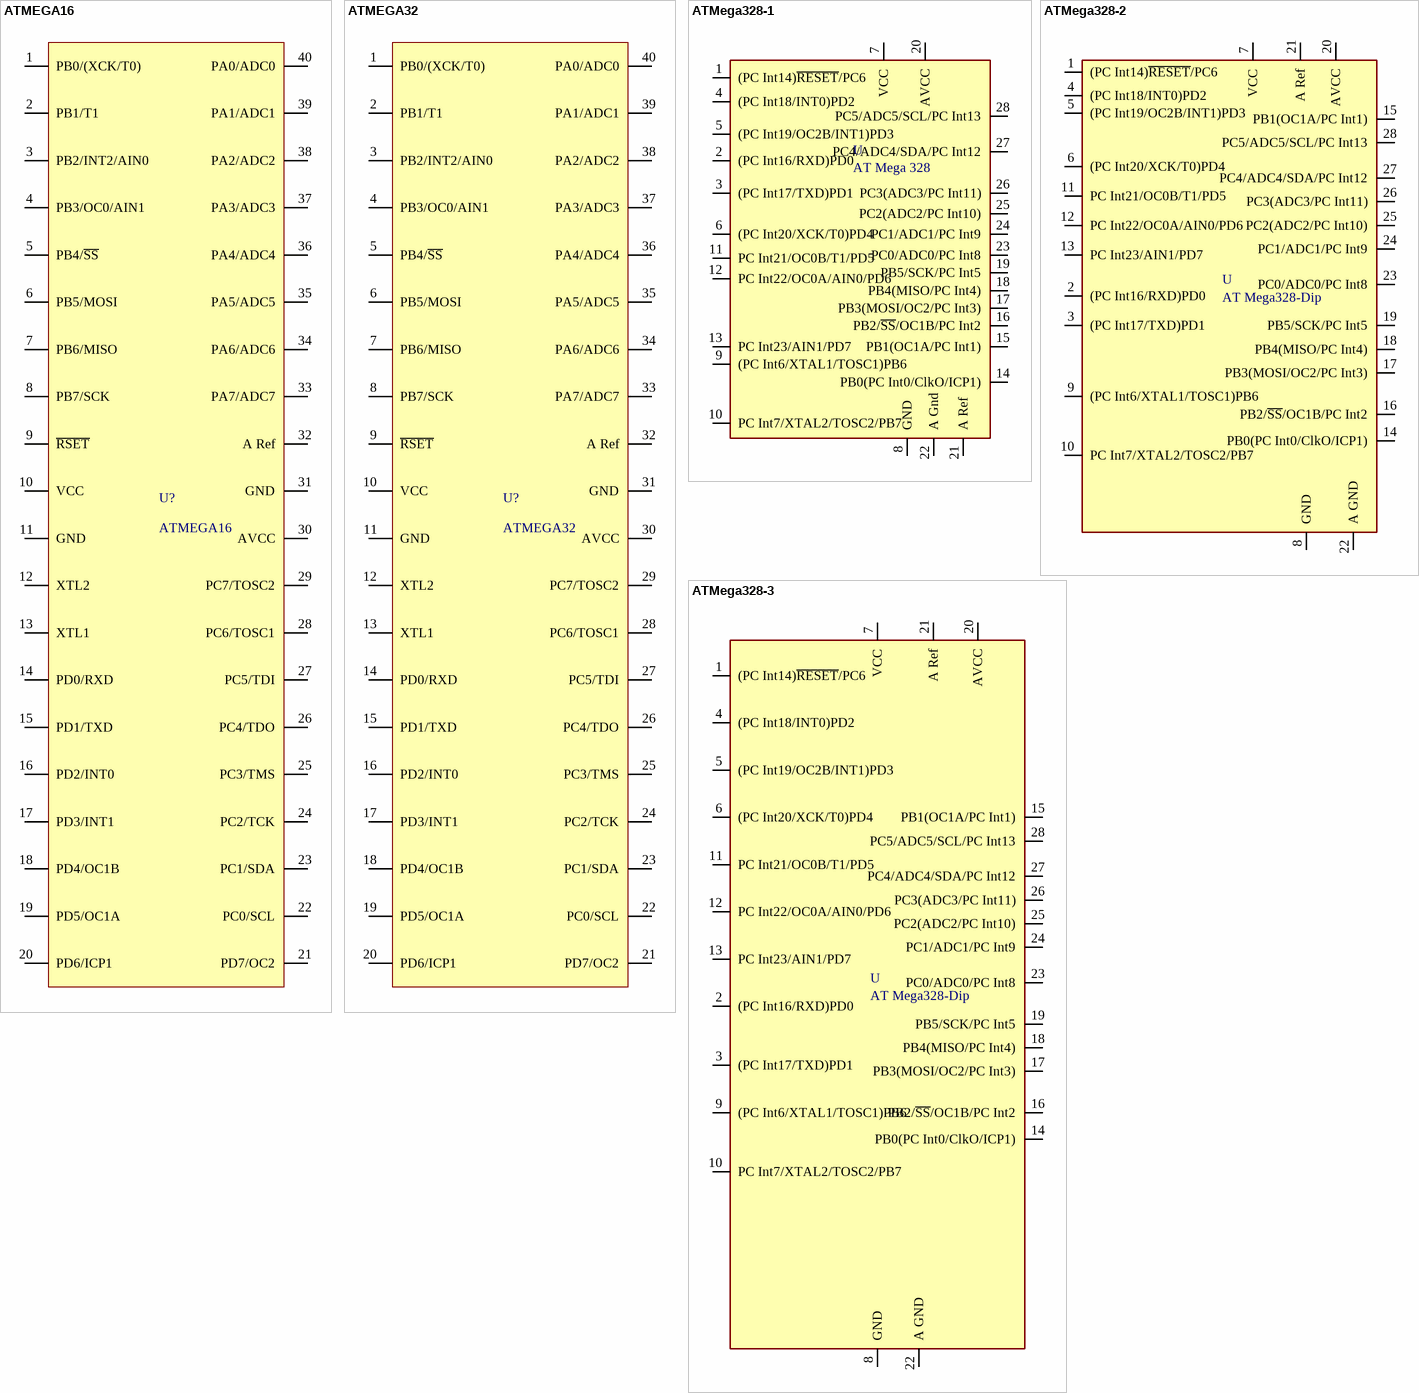
[diagram p6: symbols ATMEGA16 to ATMega328-3]

## ATMEGA16
designator U?
pins: 1 PB0/(XCK/T0), 2 PB1/T1, 3 PB2/INT2/AIN0, 4 PB3/OC0/AIN1, 5 PB4/~{SS}, 6 PB5/MOSI, 7 PB6/MISO, 8 PB7/SCK, 9 ~{RSET}, 10 VCC, 11 GND, 12 XTL2, 13 XTL1, 14 PD0/RXD, 15 PD1/TXD, 16 PD2/INT0, 17 PD3/INT1, 18 PD4/OC1B, 19 PD5/OC1A, 20 PD6/ICP1, 21 PD7/OC2, 22 PC0/SCL, 23 PC1/SDA, 24 PC2/TCK, 25 PC3/TMS, 26 PC4/TDO, 27 PC5/TDI, 28 PC6/TOSC1, 29 PC7/TOSC2, 30 AVCC, 31 GND, 32 A Ref, 33 PA7/ADC7, 34 PA6/ADC6, 35 PA5/ADC5, 36 PA4/ADC4, 37 PA3/ADC3, 38 PA2/ADC2, 39 PA1/ADC1, 40 PA0/ADC0

## ATMEGA32
designator U?
pins: 1 PB0/(XCK/T0), 2 PB1/T1, 3 PB2/INT2/AIN0, 4 PB3/OC0/AIN1, 5 PB4/~{SS}, 6 PB5/MOSI, 7 PB6/MISO, 8 PB7/SCK, 9 ~{RSET}, 10 VCC, 11 GND, 12 XTL2, 13 XTL1, 14 PD0/RXD, 15 PD1/TXD, 16 PD2/INT0, 17 PD3/INT1, 18 PD4/OC1B, 19 PD5/OC1A, 20 PD6/ICP1, 21 PD7/OC2, 22 PC0/SCL, 23 PC1/SDA, 24 PC2/TCK, 25 PC3/TMS, 26 PC4/TDO, 27 PC5/TDI, 28 PC6/TOSC1, 29 PC7/TOSC2, 30 AVCC, 31 GND, 32 A Ref, 33 PA7/ADC7, 34 PA6/ADC6, 35 PA5/ADC5, 36 PA4/ADC4, 37 PA3/ADC3, 38 PA2/ADC2, 39 PA1/ADC1, 40 PA0/ADC0

## ATMega328-1
designator U, comment AT Mega 328
footprint Dip-28 (IC Base 28Pin)
pins: 1 (PC Int14)~{RESET}/PC6, 2 (PC Int16/RXD)PD0, 3 (PC Int17/TXD)PD1, 4 (PC Int18/INT0)PD2, 5 (PC Int19/OC2B/INT1)PD3, 6 (PC Int20/XCK/T0)PD4, 7 VCC, 8 GND, 9 (PC Int6/XTAL1/TOSC1)PB6, 10 PC Int7/XTAL2/TOSC2/PB7, 11 PC Int21/OC0B/T1/PD5, 12 PC Int22/OC0A/AIN0/PD6, 13 PC Int23/AIN1/PD7, 14 PB0(PC Int0/ClkO/ICP1), 15 PB1(OC1A/PC Int1), 16 PB2/~{SS}/OC1B/PC Int2, 17 PB3(MOSI/OC2/PC Int3), 18 PB4(MISO/PC Int4), 19 PB5/SCK/PC Int5, 20 AVCC, 21 A Ref, 22 A Gnd, 23 PC0/ADC0/PC Int8, 24 PC1/ADC1/PC Int9, 25 PC2(ADC2/PC Int10), 26 PC3(ADC3/PC Int11), 27 PC4/ADC4/SDA/PC Int12, 28 PC5/ADC5/SCL/PC Int13

## ATMega328-2
designator U, comment AT Mega328-Dip
footprint Dip-28 (IC Base 28Pin)
pins: 1 (PC Int14)~{RESET}/PC6, 2 (PC Int16/RXD)PD0, 3 (PC Int17/TXD)PD1, 4 (PC Int18/INT0)PD2, 5 (PC Int19/OC2B/INT1)PD3, 6 (PC Int20/XCK/T0)PD4, 7 VCC, 8 GND, 9 (PC Int6/XTAL1/TOSC1)PB6, 10 PC Int7/XTAL2/TOSC2/PB7, 11 PC Int21/OC0B/T1/PD5, 12 PC Int22/OC0A/AIN0/PD6, 13 PC Int23/AIN1/PD7, 14 PB0(PC Int0/ClkO/ICP1), 15 PB1(OC1A/PC Int1), 16 PB2/~{SS}/OC1B/PC Int2, 17 PB3(MOSI/OC2/PC Int3), 18 PB4(MISO/PC Int4), 19 PB5/SCK/PC Int5, 20 AVCC, 21 A Ref, 22 A GND, 23 PC0/ADC0/PC Int8, 24 PC1/ADC1/PC Int9, 25 PC2(ADC2/PC Int10), 26 PC3(ADC3/PC Int11), 27 PC4/ADC4/SDA/PC Int12, 28 PC5/ADC5/SCL/PC Int13

## ATMega328-3
designator U, comment AT Mega328-Dip
footprint Dip-28 (IC Base 28Pin)
pins: 1 (PC Int14)~{RESET}/PC6, 2 (PC Int16/RXD)PD0, 3 (PC Int17/TXD)PD1, 4 (PC Int18/INT0)PD2, 5 (PC Int19/OC2B/INT1)PD3, 6 (PC Int20/XCK/T0)PD4, 7 VCC, 8 GND, 9 (PC Int6/XTAL1/TOSC1)PB6, 10 PC Int7/XTAL2/TOSC2/PB7, 11 PC Int21/OC0B/T1/PD5, 12 PC Int22/OC0A/AIN0/PD6, 13 PC Int23/AIN1/PD7, 14 PB0(PC Int0/ClkO/ICP1), 15 PB1(OC1A/PC Int1), 16 PB2/~{SS}/OC1B/PC Int2, 17 PB3(MOSI/OC2/PC Int3), 18 PB4(MISO/PC Int4), 19 PB5/SCK/PC Int5, 20 AVCC, 21 A Ref, 22 A GND, 23 PC0/ADC0/PC Int8, 24 PC1/ADC1/PC Int9, 25 PC2(ADC2/PC Int10), 26 PC3(ADC3/PC Int11), 27 PC4/ADC4/SDA/PC Int12, 28 PC5/ADC5/SCL/PC Int13

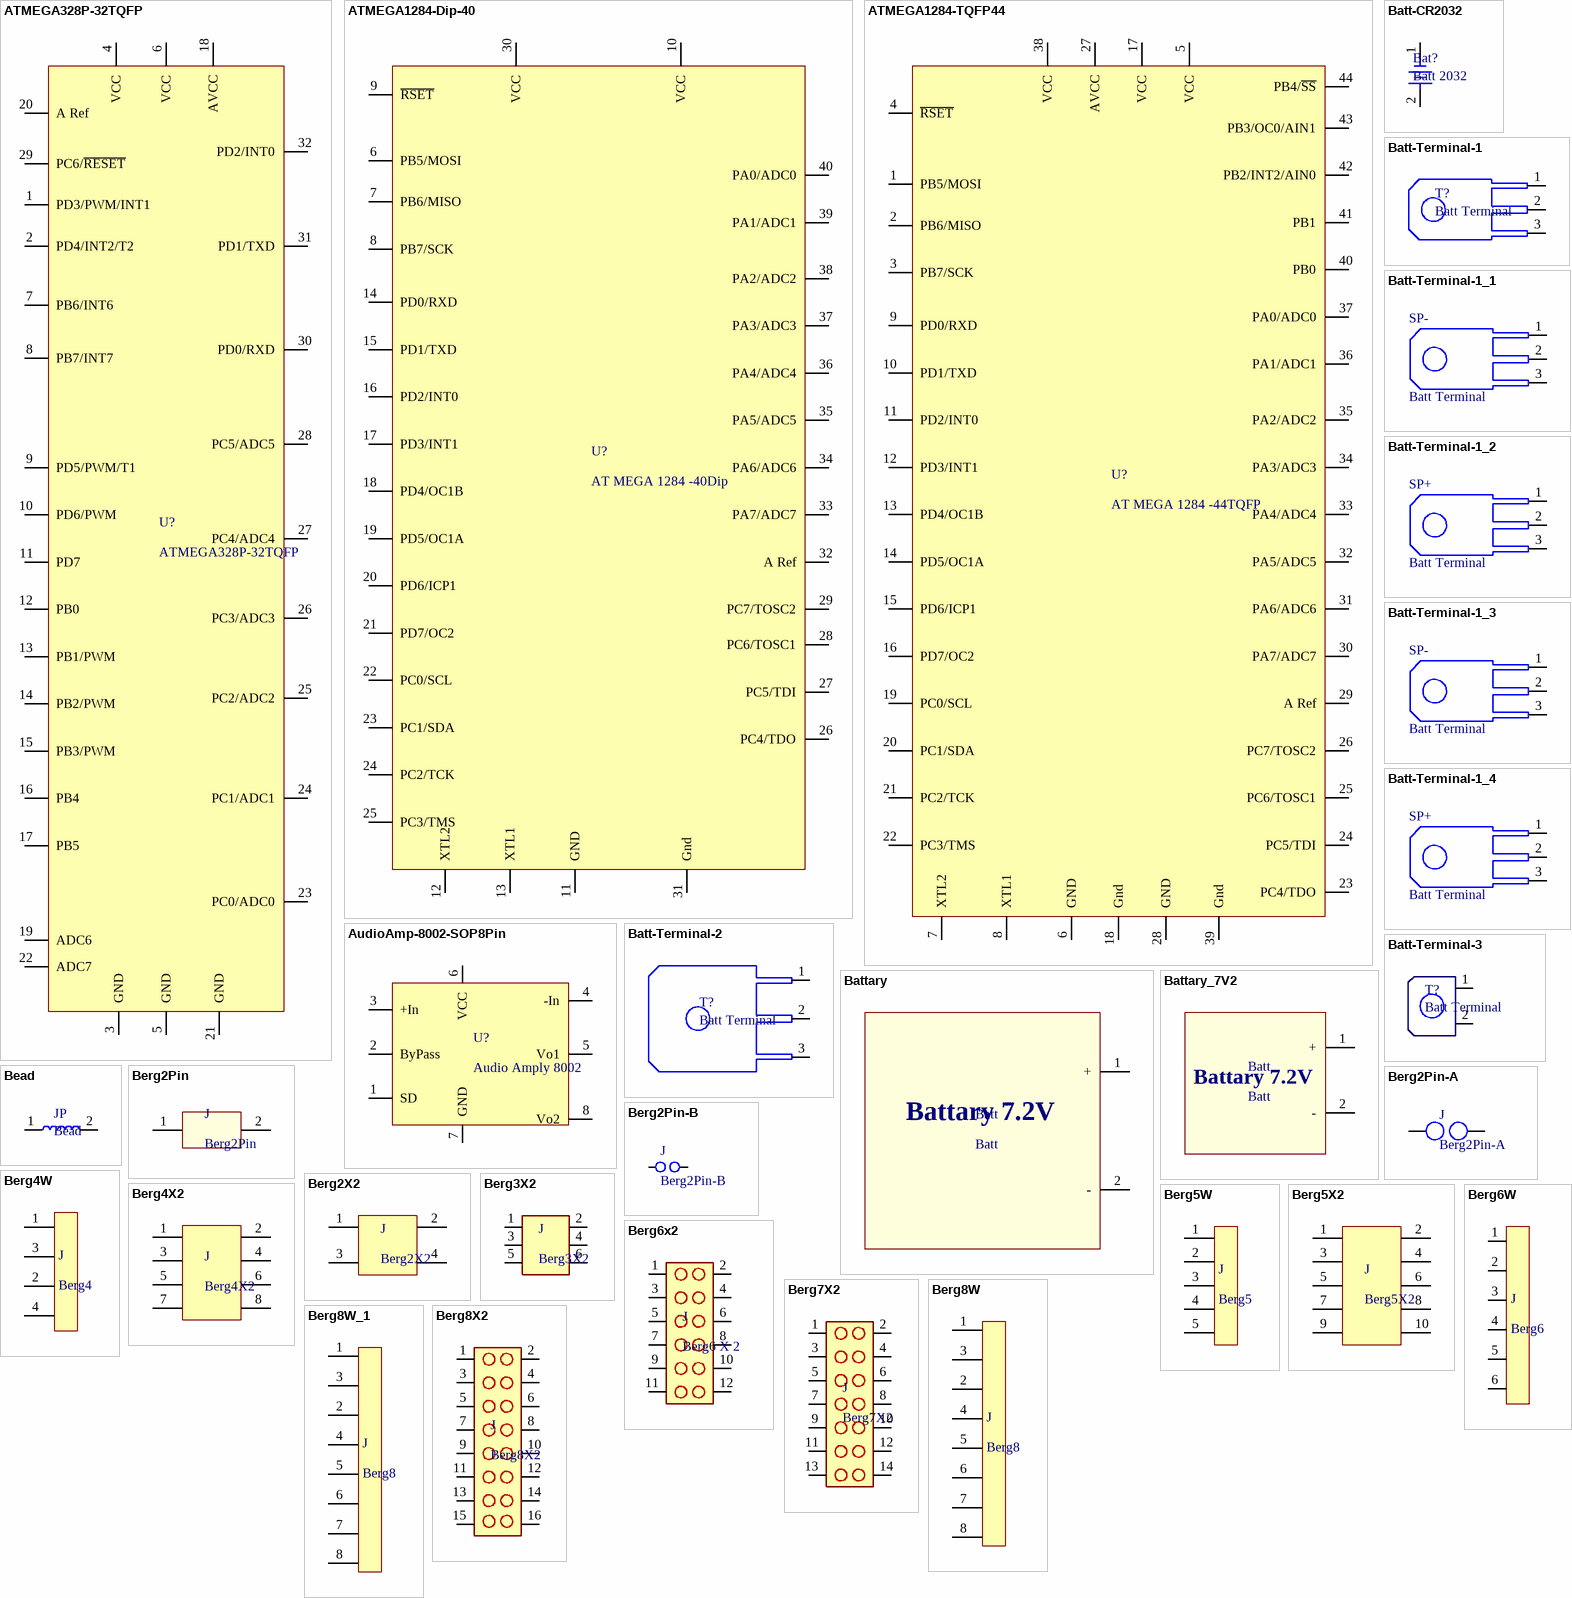
[diagram p7: symbols ATMEGA328P-32TQFP to Berg8X2]

## ATMEGA328P-32TQFP
designator U?
pins: 1 PD3/PWM/INT1, 2 PD4/INT2/T2, 3 GND, 4 VCC, 5 GND, 6 VCC, 7 PB6/INT6, 8 PB7/INT7, 9 PD5/PWM/T1, 10 PD6/PWM, 11 PD7, 12 PB0, 13 PB1/PWM, 14 PB2/PWM, 15 PB3/PWM, 16 PB4, 17 PB5, 18 AVCC, 19 ADC6, 20 A Ref, 21 GND, 22 ADC7, 23 PC0/ADC0, 24 PC1/ADC1, 25 PC2/ADC2, 26 PC3/ADC3, 27 PC4/ADC4, 28 PC5/ADC5, 29 PC6/~{RESET}, 30 PD0/RXD, 31 PD1/TXD, 32 PD2/INT0

## ATMEGA1284-Dip-40
designator U?, comment AT MEGA 1284 -40Dip
footprint DIP-40
pins: 6 PB5/MOSI, 7 PB6/MISO, 8 PB7/SCK, 9 ~{RSET}, 10 VCC, 11 GND, 12 XTL2, 13 XTL1, 14 PD0/RXD, 15 PD1/TXD, 16 PD2/INT0, 17 PD3/INT1, 18 PD4/OC1B, 19 PD5/OC1A, 20 PD6/ICP1, 21 PD7/OC2, 22 PC0/SCL, 23 PC1/SDA, 24 PC2/TCK, 25 PC3/TMS, 26 PC4/TDO, 27 PC5/TDI, 28 PC6/TOSC1, 29 PC7/TOSC2, 30 VCC, 31 Gnd, 32 A Ref, 33 PA7/ADC7, 34 PA6/ADC6, 35 PA5/ADC5, 36 PA4/ADC4, 37 PA3/ADC3, 38 PA2/ADC2, 39 PA1/ADC1, 40 PA0/ADC0

## ATMEGA1284-TQFP44
designator U?, comment AT MEGA 1284 -44TQFP
pins: 1 PB5/MOSI, 2 PB6/MISO, 3 PB7/SCK, 4 ~{RSET}, 5 VCC, 6 GND, 7 XTL2, 8 XTL1, 9 PD0/RXD, 10 PD1/TXD, 11 PD2/INT0, 12 PD3/INT1, 13 PD4/OC1B, 14 PD5/OC1A, 15 PD6/ICP1, 16 PD7/OC2, 17 VCC, 18 Gnd, 19 PC0/SCL, 20 PC1/SDA, 21 PC2/TCK, 22 PC3/TMS, 23 PC4/TDO, 24 PC5/TDI, 25 PC6/TOSC1, 26 PC7/TOSC2, 27 AVCC, 28 GND, 29 A Ref, 30 PA7/ADC7, 31 PA6/ADC6, 32 PA5/ADC5, 33 PA4/ADC4, 34 PA3/ADC3, 35 PA2/ADC2, 36 PA1/ADC1, 37 PA0/ADC0, 38 VCC, 39 Gnd, 40 PB0, 41 PB1, 42 PB2/INT2/AIN0, 43 PB3/OC0/AIN1, 44 PB4/~{SS}

## AudioAmp-8002-SOP8Pin
designator U?, comment Audio Amply 8002
footprint SOP-8 - A (SOP-8 ,1232,24C256)
pins: 1 SD, 2 ByPass, 3 +In, 4 -In, 5 Vo1, 6 VCC, 7 GND, 8 Vo2

## Batt-CR2032
designator Bat?, comment Batt 2032
footprint CR2032-Housing
pins: 1, 2

## Batt-Terminal-1
designator T?, comment Batt Terminal
footprint Bat Clip (Battary Clip Hevy)
pins: 1, 2, 3

## Batt-Terminal-1_1
designator SP-, comment Batt Terminal
footprint Bat Clip (Battary Clip Hevy)
pins: 1, 2, 3

## Batt-Terminal-1_2
designator SP+, comment Batt Terminal
footprint Bat Clip (Battary Clip Hevy)
pins: 1, 2, 3

## Batt-Terminal-1_3
designator SP-, comment Batt Terminal
footprint Bat Clip (Battary Clip Hevy)
pins: 1, 2, 3

## Batt-Terminal-1_4
designator SP+, comment Batt Terminal
footprint Bat Clip (Battary Clip Hevy)
pins: 1, 2, 3

## Batt-Terminal-2
designator T?, comment Batt Terminal
pins: 1, 2, 3

## Batt-Terminal-3
designator T?, comment Batt Terminal
footprint Bat Clip 2Pin-Small (Battary Clip Hevy 2PIN)
pins: 1, 2

## Battary
designator Batt, comment Batt
pins: 1 +, 2 -
text: Battary 7.2V

## Battary_7V2
designator Batt, comment Batt
footprint Protectron2W (Connector4MM Picth 2Way)
pins: 1 +, 2 -
text: Battary 7.2V

## Bead
designator JP
pins: 1, 2

## Berg2Pin
designator J
pins: 1, 2

## Berg2Pin-A
designator J
footprint Berg2Pin (Single Line 2Pin Berg 2.54Picth)
pins: 1, 2

## Berg2Pin-B
designator J
footprint Berg2Pin (Single Line 2Pin Berg 2.54Picth)
pins: 1, 2

## Berg2X2
designator J
pins: 1, 2, 3, 4

## Berg3X2
designator J
pins: 1, 2, 3, 4, 5, 6

## Berg4W
designator J, comment Berg4
pins: 1, 2, 3, 4

## Berg4X2
designator J
pins: 1, 2, 3, 4, 5, 6, 7, 8

## Berg5W
designator J, comment Berg5
footprint Berg5Pin (Single Line 5Pin Berg 2.54Picth)
pins: 1, 2, 3, 4, 5

## Berg5X2
designator J
pins: 1, 2, 3, 4, 5, 6, 7, 8, 9, 10

## Berg6W
designator J, comment Berg6
footprint Berg6Pin (Footprint not found)
pins: 1, 2, 3, 4, 5, 6

## Berg6x2
designator J, comment Berg6 X 2
footprint Berg6x2 (Footprint not found)
pins: 1, 2, 3, 4, 5, 6, 7, 8, 9, 10, 11, 12

## Berg7X2
designator J
footprint BERG7X2 (Footprint not found)
pins: 1, 2, 3, 4, 5, 6, 7, 8, 9, 10, 11, 12, 13, 14

## Berg8W
designator J, comment Berg8
pins: 1, 2, 3, 4, 5, 6, 7, 8

## Berg8W_1
designator J, comment Berg8
pins: 1, 2, 3, 4, 5, 6, 7, 8

## Berg8X2
designator J
footprint BERG2X8 (Footprint not found)
pins: 1, 2, 3, 4, 5, 6, 7, 8, 9, 10, 11, 12, 13, 14, 15, 16

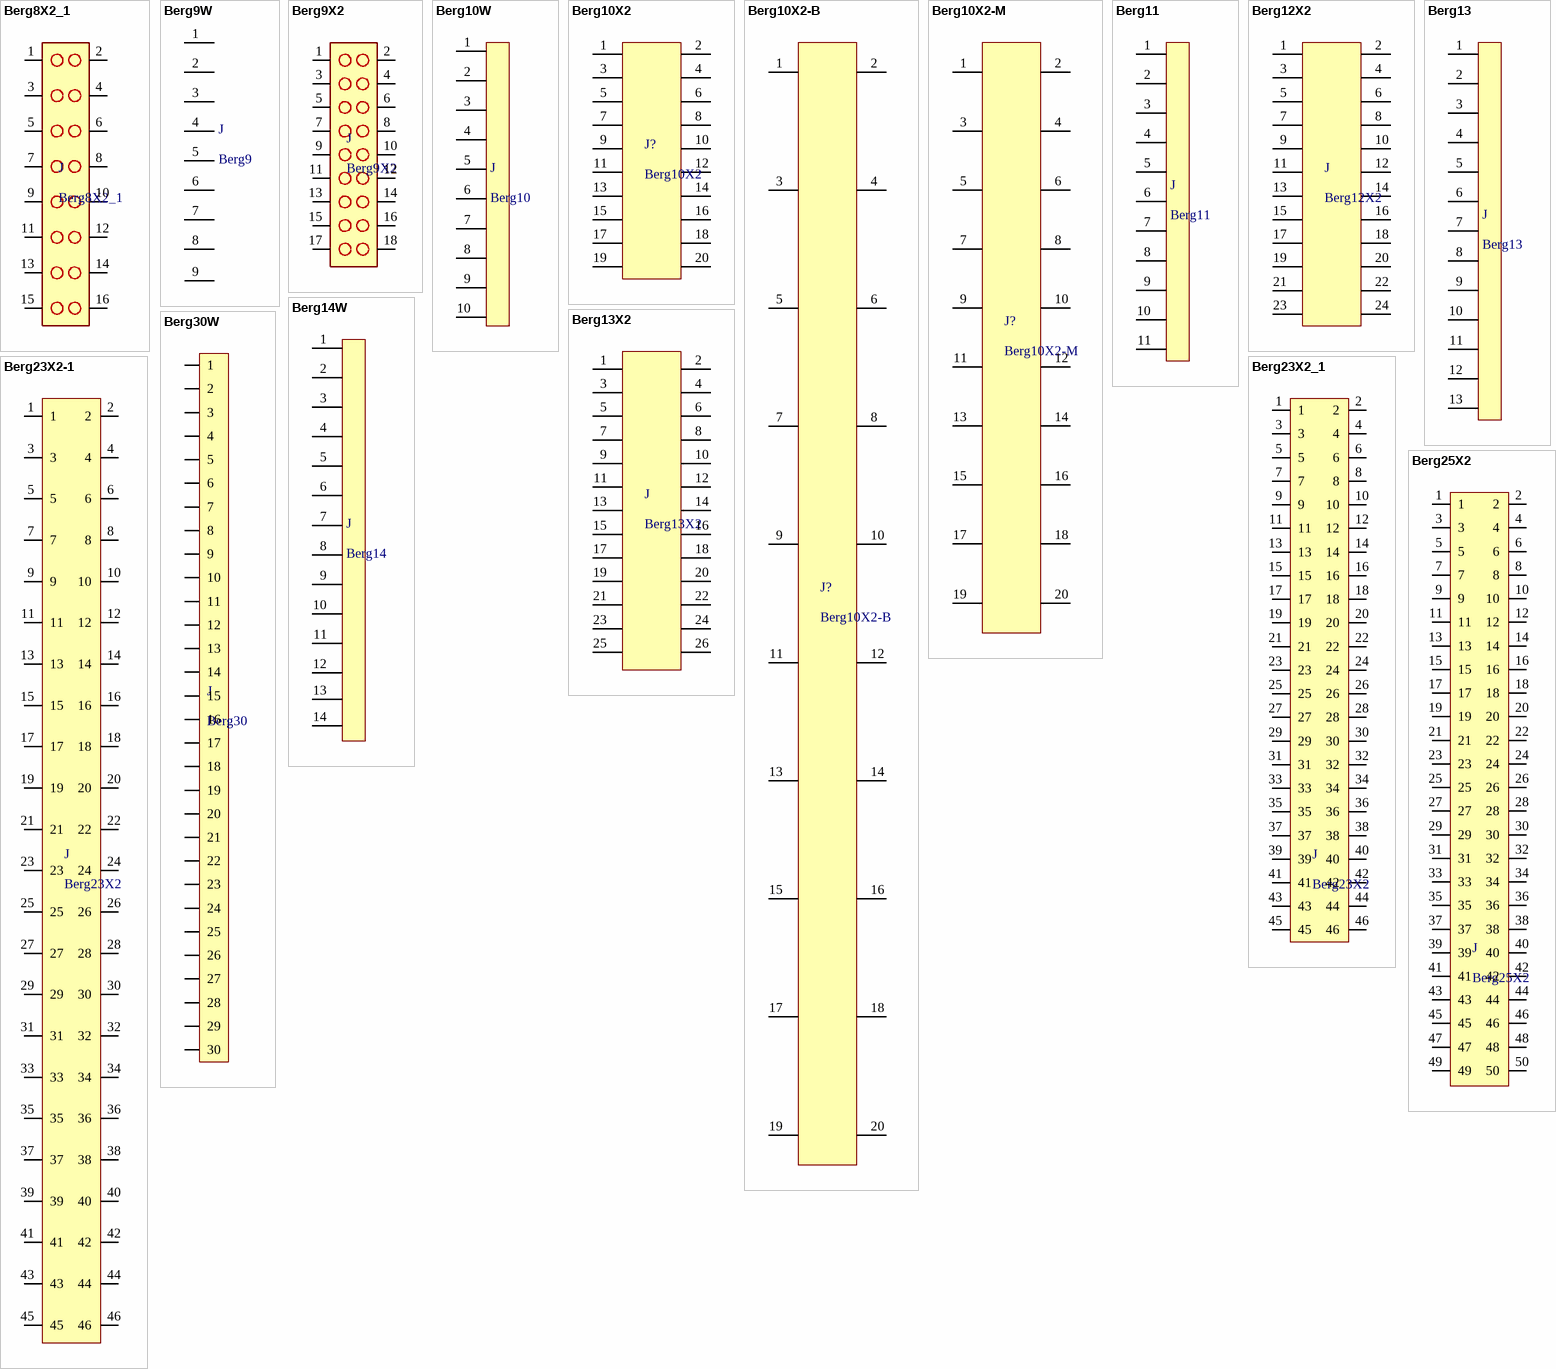
[diagram p8: symbols Berg8X2_1 to Berg30W]

## Berg8X2_1
designator J
footprint BERG2X8 (Footprint not found)
pins: 1, 2, 3, 4, 5, 6, 7, 8, 9, 10, 11, 12, 13, 14, 15, 16

## Berg9W
designator J, comment Berg9
pins: 1, 2, 3, 4, 5, 6, 7, 8, 9

## Berg9X2
designator J
footprint BERG 9X2 (Footprint not found)
pins: 1, 2, 3, 4, 5, 6, 7, 8, 9, 10, 11, 12, 13, 14, 15, 16, 17, 18

## Berg10W
designator J, comment Berg10
footprint Berg10Pin (Single Line 10Pin Berg 2.54Picth)
pins: 1, 2, 3, 4, 5, 6, 7, 8, 9, 10

## Berg10X2
designator J?
pins: 1, 2, 3, 4, 5, 6, 7, 8, 9, 10, 11, 12, 13, 14, 15, 16, 17, 18, 19, 20

## Berg10X2-B
designator J?
pins: 1, 2, 3, 4, 5, 6, 7, 8, 9, 10, 11, 12, 13, 14, 15, 16, 17, 18, 19, 20

## Berg10X2-M
designator J?
pins: 1, 2, 3, 4, 5, 6, 7, 8, 9, 10, 11, 12, 13, 14, 15, 16, 17, 18, 19, 20

## Berg11
designator J
footprint Berg11PinX2.54 (Footprint not found)
pins: 1, 2, 3, 4, 5, 6, 7, 8, 9, 10, 11

## Berg12X2
designator J
footprint Berg12X2 (Berg Dual Line 12 X 2 =2.54Picth)
pins: 1, 2, 3, 4, 5, 6, 7, 8, 9, 10, 11, 12, 13, 14, 15, 16, 17, 18, 19, 20, 21, 22, 23, 24

## Berg13
designator J
footprint Berg13PinX2.54 (Footprint not found)
pins: 1, 2, 3, 4, 5, 6, 7, 8, 9, 10, 11, 12, 13

## Berg13X2
designator J
pins: 1, 2, 3, 4, 5, 6, 7, 8, 9, 10, 11, 12, 13, 14, 15, 16, 17, 18, 19, 20, 21, 22, 23, 24, 25, 26

## Berg14W
designator J, comment Berg14
footprint Berg14Pin (Footprint not found)
pins: 1, 2, 3, 4, 5, 6, 7, 8, 9, 10, 11, 12, 13, 14

## Berg23X2-1
designator J, comment Berg23X2
footprint Berg23X2 (Footprint not found)
pins: 1, 2, 3, 4, 5, 6, 7, 8, 9, 10, 11, 12, 13, 14, 15, 16, 17, 18, 19, 20, 21, 22, 23, 24, 25, 26, 27, 28, 29, 30, 31, 32, 33, 34, 35, 36, 37, 38, 39, 40, 41, 42, 43, 44, 45, 46

## Berg23X2_1
designator J, comment Berg23X2
footprint Berg23X2 (Footprint not found)
pins: 1, 2, 3, 4, 5, 6, 7, 8, 9, 10, 11, 12, 13, 14, 15, 16, 17, 18, 19, 20, 21, 22, 23, 24, 25, 26, 27, 28, 29, 30, 31, 32, 33, 34, 35, 36, 37, 38, 39, 40, 41, 42, 43, 44, 45, 46

## Berg25X2
designator J
footprint Berg25X2 (Berg Dual Line 25 X 2 =2.54Picth)
pins: 1, 2, 3, 4, 5, 6, 7, 8, 9, 10, 11, 12, 13, 14, 15, 16, 17, 18, 19, 20, 21, 22, 23, 24, 25, 26, 27, 28, 29, 30, 31, 32, 33, 34, 35, 36, 37, 38, 39, 40, 41, 42, 43, 44, 45, 46, 47, 48, 49, 50

## Berg30W
designator J, comment Berg30
footprint Berg30Pin (Footprint not found)
pins: 1, 2, 3, 4, 5, 6, 7, 8, 9, 10, 11, 12, 13, 14, 15, 16, 17, 18, 19, 20, 21, 22, 23, 24, 25, 26, 27, 28, 29, 30

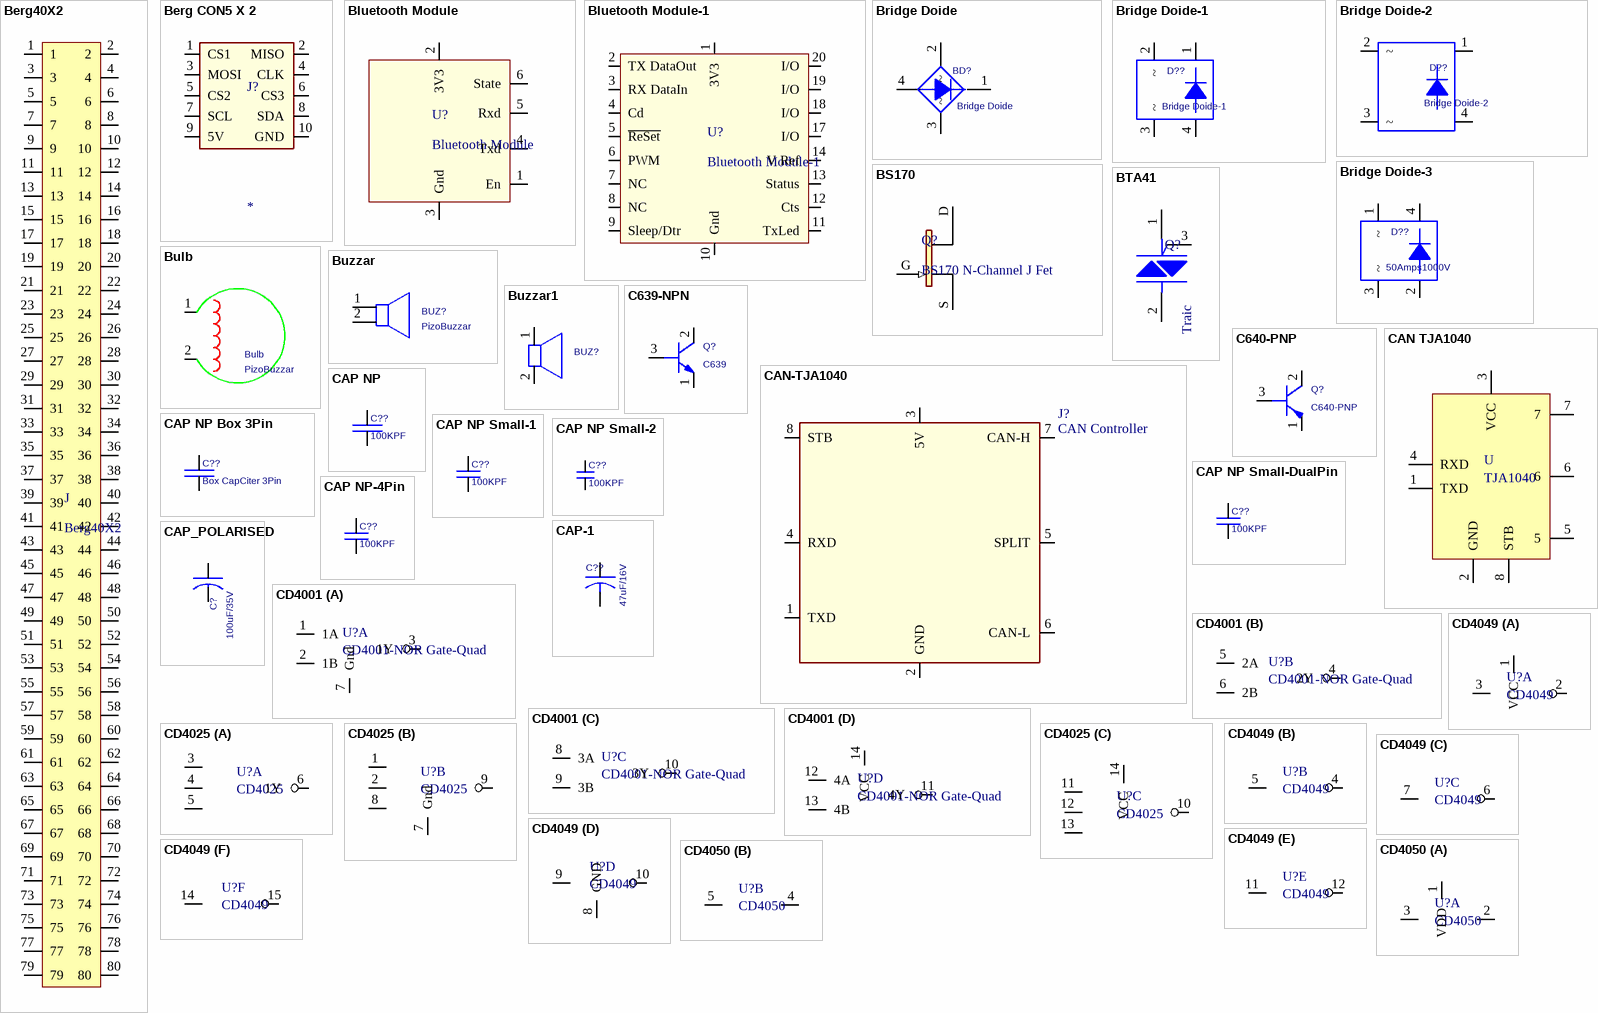
[diagram p9: symbols Berg40X2 to CD4050]

## Berg40X2
designator J
footprint Berg2X40 (Berg Dual Line 2 X 40 =2.54Picth)
pins: 1, 2, 3, 4, 5, 6, 7, 8, 9, 10, 11, 12, 13, 14, 15, 16, 17, 18, 19, 20, 21, 22, 23, 24, 25, 26, 27, 28, 29, 30, 31, 32, 33, 34, 35, 36, 37, 38, 39, 40, 41, 42, 43, 44, 45, 46, 47, 48, 49, 50, 51, 52, 53, 54, 55, 56, 57, 58, 59, 60, 61, 62, 63, 64, 65, 66, 67, 68, 69, 70, 71, 72, 73, 74, 75, 76, 77, 78, 79, 80

## Berg CON5 X 2
designator J?
pins: 1 CS1, 2 MISO, 3 MOSI, 4 CLK, 5 CS2, 6 CS3, 7 SCL, 8 SDA, 9 5V, 10 GND

## Bluetooth Module
designator U?
footprint Bluetooth Module (Footprint not found)
pins: 1 En, 2 3V3, 3 Gnd, 4 Txd, 5 Rxd, 6 State

## Bluetooth Module-1
designator U?
Bluetooth Module
pins: 1 3V3, 2 TX DataOut, 3 RX DataIn, 4 Cd, 5 ~{ReSet}, 6 PWM, 7 NC, 8 NC, 9 Sleep/Dtr, 10 Gnd, 11 TxLed, 12 Cts, 13 Status, 14 V Ref, 17 I/O, 18 I/O, 19 I/O, 20 I/O

## Bridge Doide
designator BD?
pins: 1, 2 ~, 3 ~, 4 +

## Bridge Doide-1
designator D??
pins: 1, 2 ~, 3 ~, 4 +

## Bridge Doide-2
designator D??
pins: 1, 2 ~, 3 ~, 4 +

## Bridge Doide-3
designator D??, comment 50Amps1000V
footprint BridgeRecti KBPC5010
pins: 1 ~, 2, 3 ~, 4 +

## BS170
designator Q?, comment BS170 N-Channel J Fet
footprint TO92-BS170 (BS170-N Channel J Fet)
pins: D 1, G 0 (in), S 1

## BTA41
designator Q?, comment Traic
footprint BTA41-247-3 (Footprint not found)
pins: 1 MainTerminal1, 2 MainTerminal2, 3

## Bulb
designator Bulb, comment PizoBuzzar
footprint PizzoBuzzar10MM
pins: 1 -, 2 +

## Buzzar
designator BUZ?, comment PizoBuzzar
footprint PizzoBuzzar10MM
pins: 1 -, 2 +

## Buzzar1
designator BUZ?
footprint PizzoBuzzar10MM
pins: 1 -, 2 +

## C639-NPN
designator Q?, comment C639
footprint TO92-C639NPN
pins: 1 EMITTER, 2 COLLECTOR, 3 BASE

## C640-PNP
designator Q?
footprint TO92-C640PNP
pins: 1 EMITTER, 2 COLLECTOR, 3 BASE

## CAN TJA1040
designator U, comment TJA1040
pins: 1 TXD, 2 GND, 3 VCC, 4 RXD, 5, 6, 7, 8 STB

## CAN-TJA1040
designator J?, comment CAN Controller
pins: 1 TXD, 2 GND, 3 5V, 4 RXD, 5 SPLIT, 6 CAN-L, 7 CAN-H, 8 STB

## CAP NP
designator C??, comment 100KPF
footprint 0805
footprint 1206 (ChipResistor/ Capcitor)
pins: 1, 2

## CAP NP Box 3Pin
designator C??, comment Box CapCiter 3Pin
footprint Box Capacitor 26 X 12MM
pins: 1, 2, 3

## CAP NP Small-1
designator C??, comment 100KPF
footprint 0805
footprint 1206 (ChipResistor/ Capcitor)
footprint PF4MM-Leaded
pins: 1, 2

## CAP NP Small-2
designator C??, comment 100KPF
footprint 0805
footprint 1206 (ChipResistor/ Capcitor)
footprint PF4MM-Leaded
pins: 1, 2

## CAP NP Small-DualPin
designator C??, comment 100KPF
footprint Box Capacitor 26 X 12MM
footprint 1206 (ChipResistor/ Capcitor)
pins: 1, 2, 3

## CAP NP-4Pin
designator C??, comment 100KPF
footprint 0805
footprint 1206 (ChipResistor/ Capcitor)
pins: 1, 2, 3, 4

## CAP-1
designator C??, comment 47uF/16V
footprint CV10 (CapacitorVarticalElectroletic 10MM)
pins: 1 -, 2 +

## CAP_POLARISED
designator C?, comment 100uF/35V
footprint CV8 (CapacitorVarticalElectroletic 8MM)
pins: 1 Gnd, 2 +

## CD4001
designator U?, comment CD4001-NOR Gate-Quad
part A pins: 1 1A, 2 1B, 3 1Y, 7 Gnd
part B pins: 4 2Y, 5 2A, 6 2B
part C pins: 8 3A, 9 3B, 10 3Y
part D pins: 11 4Y, 12 4A, 13 4B, 14 VCC

## CD4025
designator U?
footprint Dip-14
part A pins: 3, 4, 5, 6 1Y
part B pins: 1, 2, 7 Gnd, 8, 9
part C pins: 10, 11, 12, 13, 14 VCC

## CD4049
designator U?
footprint Dip-16
part A pins: 1 VCC, 2, 3
part B pins: 4, 5
part C pins: 6, 7
part D pins: 8 GND, 9, 10
part E pins: 11, 12
part F pins: 14, 15

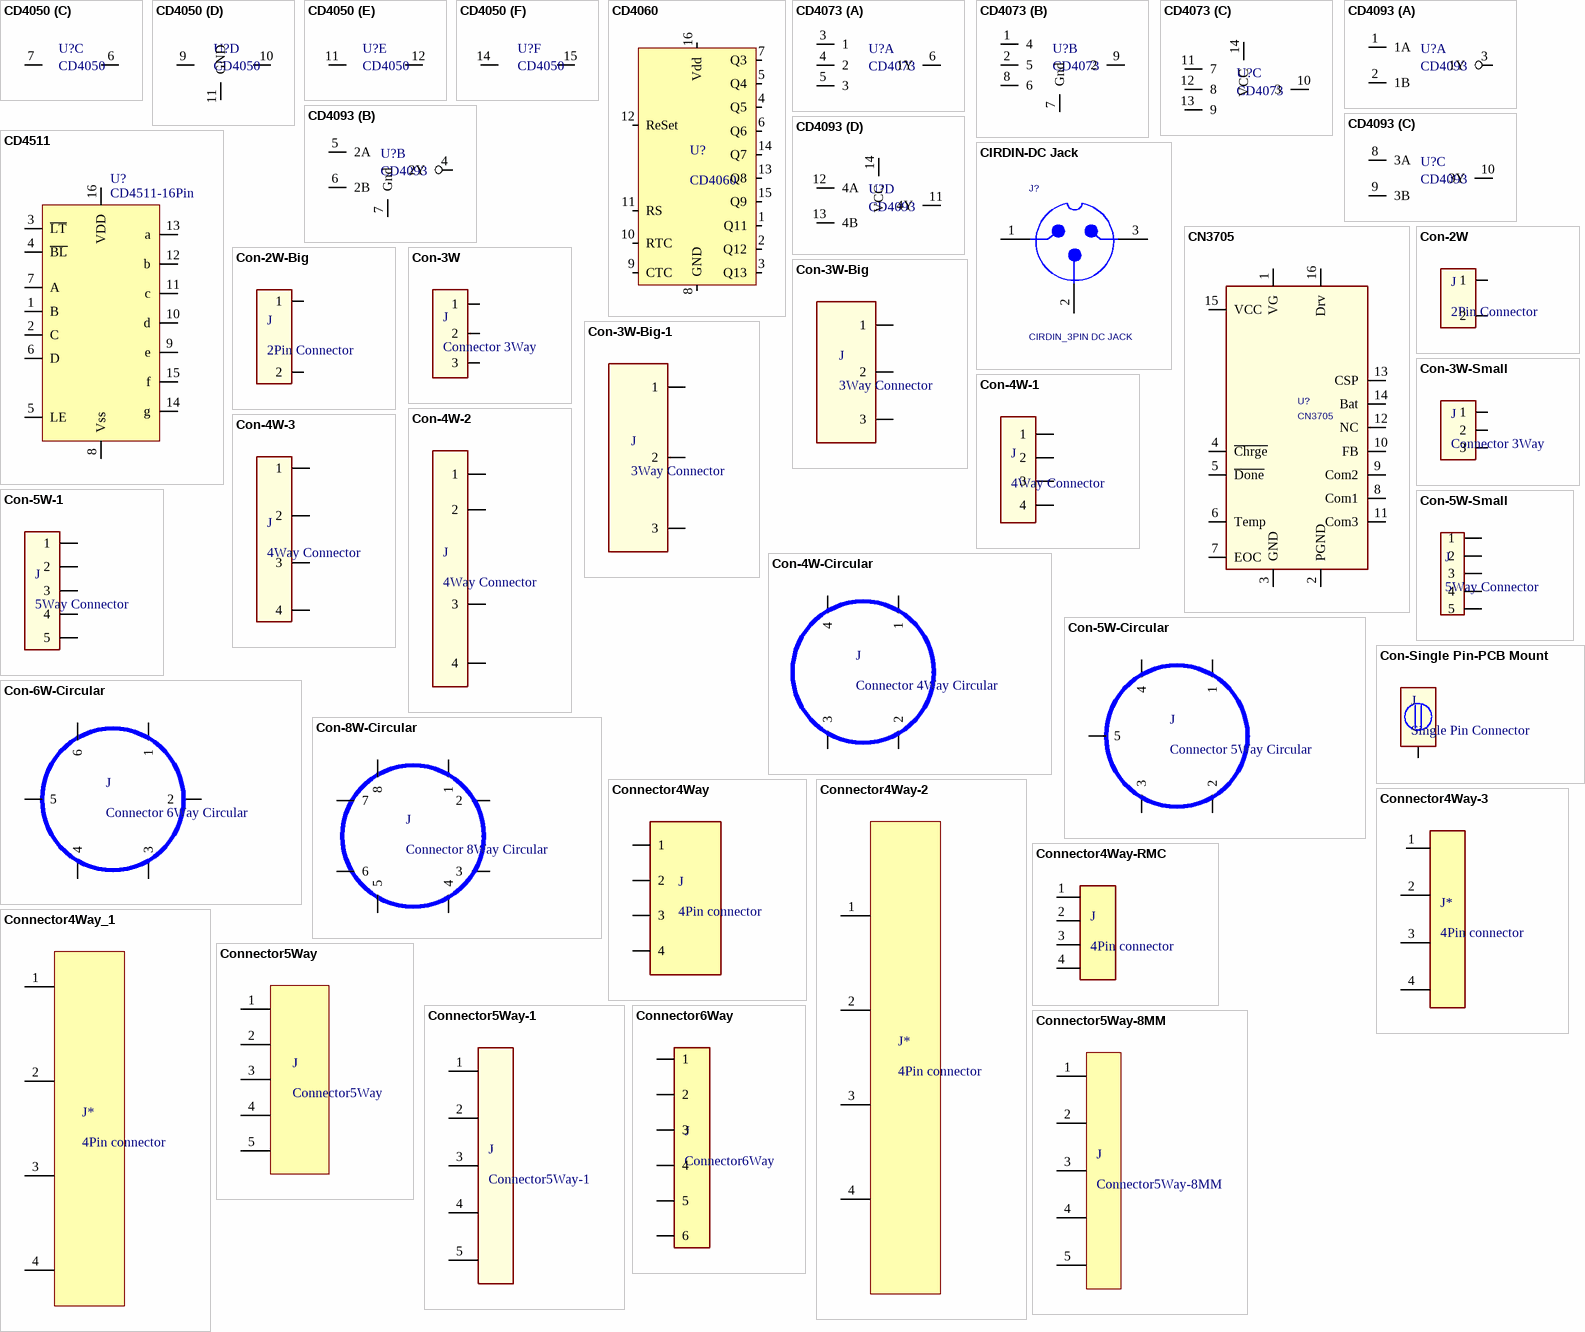
[diagram p10: symbols CD4050 to Connector6Way]

## CD4050
designator U?
part A pins: 1 VDD, 2, 3
part B pins: 4, 5
part C pins: 6, 7
part D pins: 9, 10, 11 GND
part E pins: 11, 12
part F pins: 14, 15

## CD4060
designator U?
footprint Dip-16
pins: 1 Q11, 2 Q12, 3 Q13, 4 Q5, 5 Q4, 6 Q6, 7 Q3, 8 GND, 9 CTC, 10 RTC, 11 RS, 12 ReSet, 13 Q8, 14 Q7, 15 Q9, 16 Vdd

## CD4073
designator U?
footprint Dip-14
part A pins: 3 1, 4 2, 5 3, 6 1Y
part B pins: 1 4, 2 5, 7 Gnd, 8 6, 9 2
part C pins: 10 3, 11 7, 12 8, 13 9, 14 VCC

## CD4093
designator U?
footprint SOP-14
part A pins: 1 1A, 2 1B, 3 1Y
part B pins: 4 2Y, 5 2A, 6 2B, 7 Gnd
part C pins: 8 3A, 9 3B, 10 3Y
part D pins: 11 4Y, 12 4A, 13 4B, 14 VCC

## CD4511
designator U?, comment CD4511-16Pin
footprint Dip-16
pins: 1 B, 2 C, 3 ~{LT}, 4 ~{BL}, 5 LE, 6 D, 7 A, 8 Vss, 9 e, 10 d, 11 c, 12 b, 13 a, 14 g, 15 f, 16 VDD

## CIRDIN-DC Jack
designator J?, comment CIRDIN_3PIN DC JACK
footprint DC Jack
pins: 1, 2, 3

## CN3705
designator U?
footprint SSOP-16 - 0.635 (SSOP-16 = 0.635)
pins: 1 VG, 2 PGND, 3 GND, 4 ~{Chrge}, 5 ~{Done}, 6 Temp, 7 EOC, 8 Com1, 9 Com2, 10 FB, 11 Com3, 12 NC, 13 CSP, 14 Bat, 15 VCC, 16 Drv

## Con-2W
designator J, comment 2Pin Connector
pins: 1, 2

## Con-2W-Big
designator J, comment 2Pin Connector
pins: 1, 2

## Con-3W
designator J, comment Connector 3Way
pins: 1, 2, 3

## Con-3W-Big
designator J, comment 3Way Connector
pins: 1, 2, 3

## Con-3W-Big-1
designator J, comment 3Way Connector
footprint Protectron3W (Connector4MM Picth 3Way)
pins: 1, 2, 3

## Con-3W-Small
designator J, comment Connector 3Way
pins: 1, 2, 3

## Con-4W-1
designator J, comment 4Way Connector
pins: 1, 2, 3, 4

## Con-4W-2
designator J, comment 4Way Connector
footprint Protectron4W (Connector4MM Picth 4Way)
pins: 1, 2, 3, 4

## Con-4W-3
designator J, comment 4Way Connector
footprint Protectron4W (Connector4MM Picth 4Way)
pins: 1, 2, 3, 4

## Con-4W-Circular
designator J, comment Connector 4Way Circular
footprint Connecor 4Way Circular
footprint Connecor 4Way Circular
pins: 1, 2, 3, 4

## Con-5W-1
designator J, comment 5Way Connector
pins: 1, 2, 3, 4, 5

## Con-5W-Circular
designator J, comment Connector 5Way Circular
footprint Connecor 5Way Circular
pins: 1, 2, 3, 4, 5

## Con-5W-Small
designator J, comment 5Way Connector
pins: 1, 2, 3, 4, 5

## Con-6W-Circular
designator J, comment Connector 6Way Circular
footprint Connecor 5Way Circular
pins: 1, 2, 3, 4, 5, 6

## Con-8W-Circular
designator J, comment Connector 8Way Circular
footprint Connecor 8Way Circular
pins: 1, 2, 3, 4, 5, 6, 7, 8

## Con-Single Pin-PCB Mount
designator J, comment Single Pin Connector
pins: 1, 2

## Connector4Way
designator J, comment 4Pin connector
footprint RMC4W (RMC4Way Connector 2.54Picth)
pins: 1, 2, 3, 4

## Connector4Way-2
designator J*, comment 4Pin connector
pins: 1, 2, 3, 4

## Connector4Way-3
designator J*, comment 4Pin connector
footprint RMC4W (RMC4Way Connector 2.54Picth)
pins: 1, 2, 3, 4

## Connector4Way-RMC
designator J, comment 4Pin connector
footprint RMC4W (RMC4Way Connector 2.54Picth)
pins: 1, 2, 3, 4

## Connector4Way_1
designator J*, comment 4Pin connector
footprint RMC4W (RMC4Way Connector 2.54Picth)
pins: 1, 2, 3, 4

## Connector5Way
designator J
footprint RMC5W (RMC5Way Connector 2.54Picth)
pins: 1, 2, 3, 4, 5

## Connector5Way-1
designator J
footprint RMC5W (RMC5Way Connector 2.54Picth)
pins: 1, 2, 3, 4, 5

## Connector5Way-8MM
designator J
footprint RMC5W (RMC5Way Connector 2.54Picth)
footprint Protectron5W (Connector4MM Picth 5Way)
pins: 1, 2, 3, 4, 5

## Connector6Way
designator J
footprint RMC6W (RMC6Way Connector 2.54Picth)
pins: 1, 2, 3, 4, 5, 6

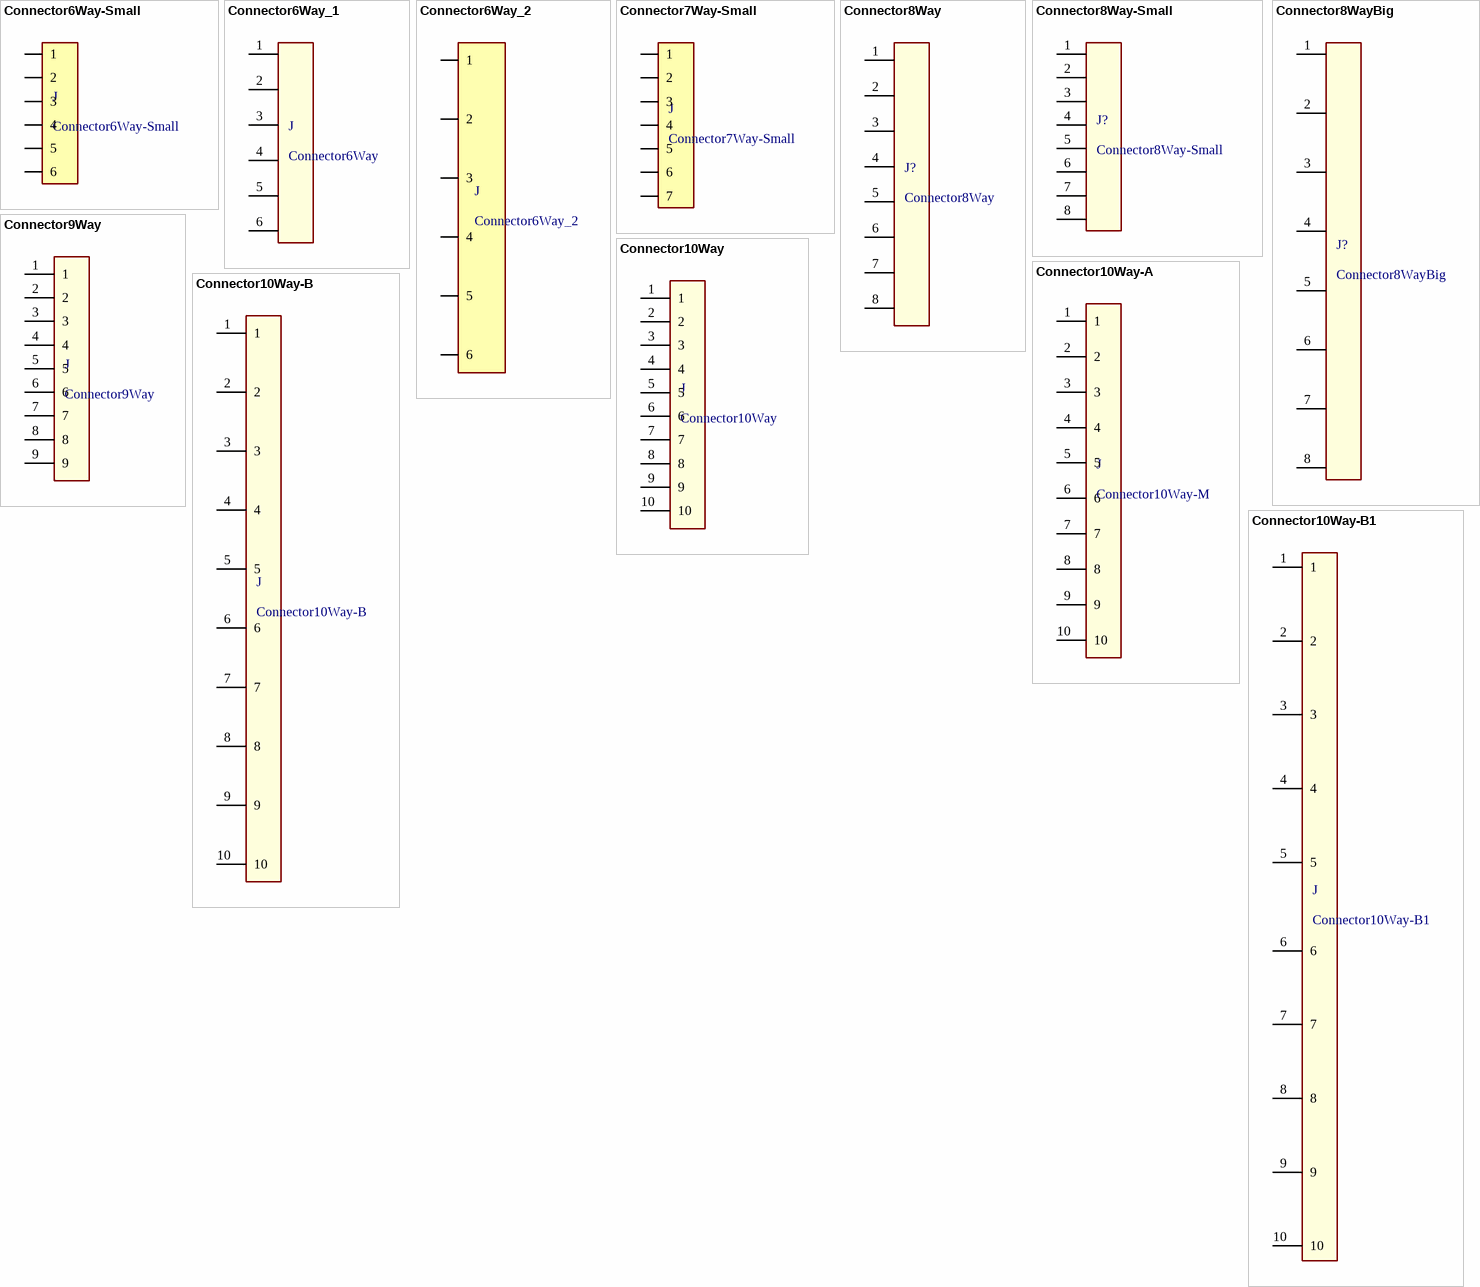
[diagram p11: symbols Connector6Way-Small to Connector10Way-B1]

## Connector6Way-Small
designator J
footprint RMC6W (RMC6Way Connector 2.54Picth)
pins: 1, 2, 3, 4, 5, 6

## Connector6Way_1
designator J, comment Connector6Way
footprint RMC6W (RMC6Way Connector 2.54Picth)
pins: 1, 2, 3, 4, 5, 6

## Connector6Way_2
designator J
footprint RMC6W (RMC6Way Connector 2.54Picth)
pins: 1, 2, 3, 4, 5, 6

## Connector7Way-Small
designator J
pins: 1, 2, 3, 4, 5, 6, 7

## Connector8Way
designator J?
footprint RMC8W (Footprint not found)
pins: 1, 2, 3, 4, 5, 6, 7, 8

## Connector8Way-Small
designator J?
footprint RMC8W (Footprint not found)
pins: 1, 2, 3, 4, 5, 6, 7, 8

## Connector8WayBig
designator J?
footprint RMC8W (Footprint not found)
pins: 1, 2, 3, 4, 5, 6, 7, 8

## Connector9Way
designator J
pins: 1, 2, 3, 4, 5, 6, 7, 8, 9

## Connector10Way
designator J
pins: 1, 2, 3, 4, 5, 6, 7, 8, 9, 10

## Connector10Way-A
designator J, comment Connector10Way-M
footprint RMC10W (RMC10Way Connector 2.54Picth)
pins: 1, 2, 3, 4, 5, 6, 7, 8, 9, 10

## Connector10Way-B
designator J
footprint RMC10W (RMC10Way Connector 2.54Picth)
pins: 1, 2, 3, 4, 5, 6, 7, 8, 9, 10

## Connector10Way-B1
designator J
footprint RMC10W (RMC10Way Connector 2.54Picth)
pins: 1, 2, 3, 4, 5, 6, 7, 8, 9, 10

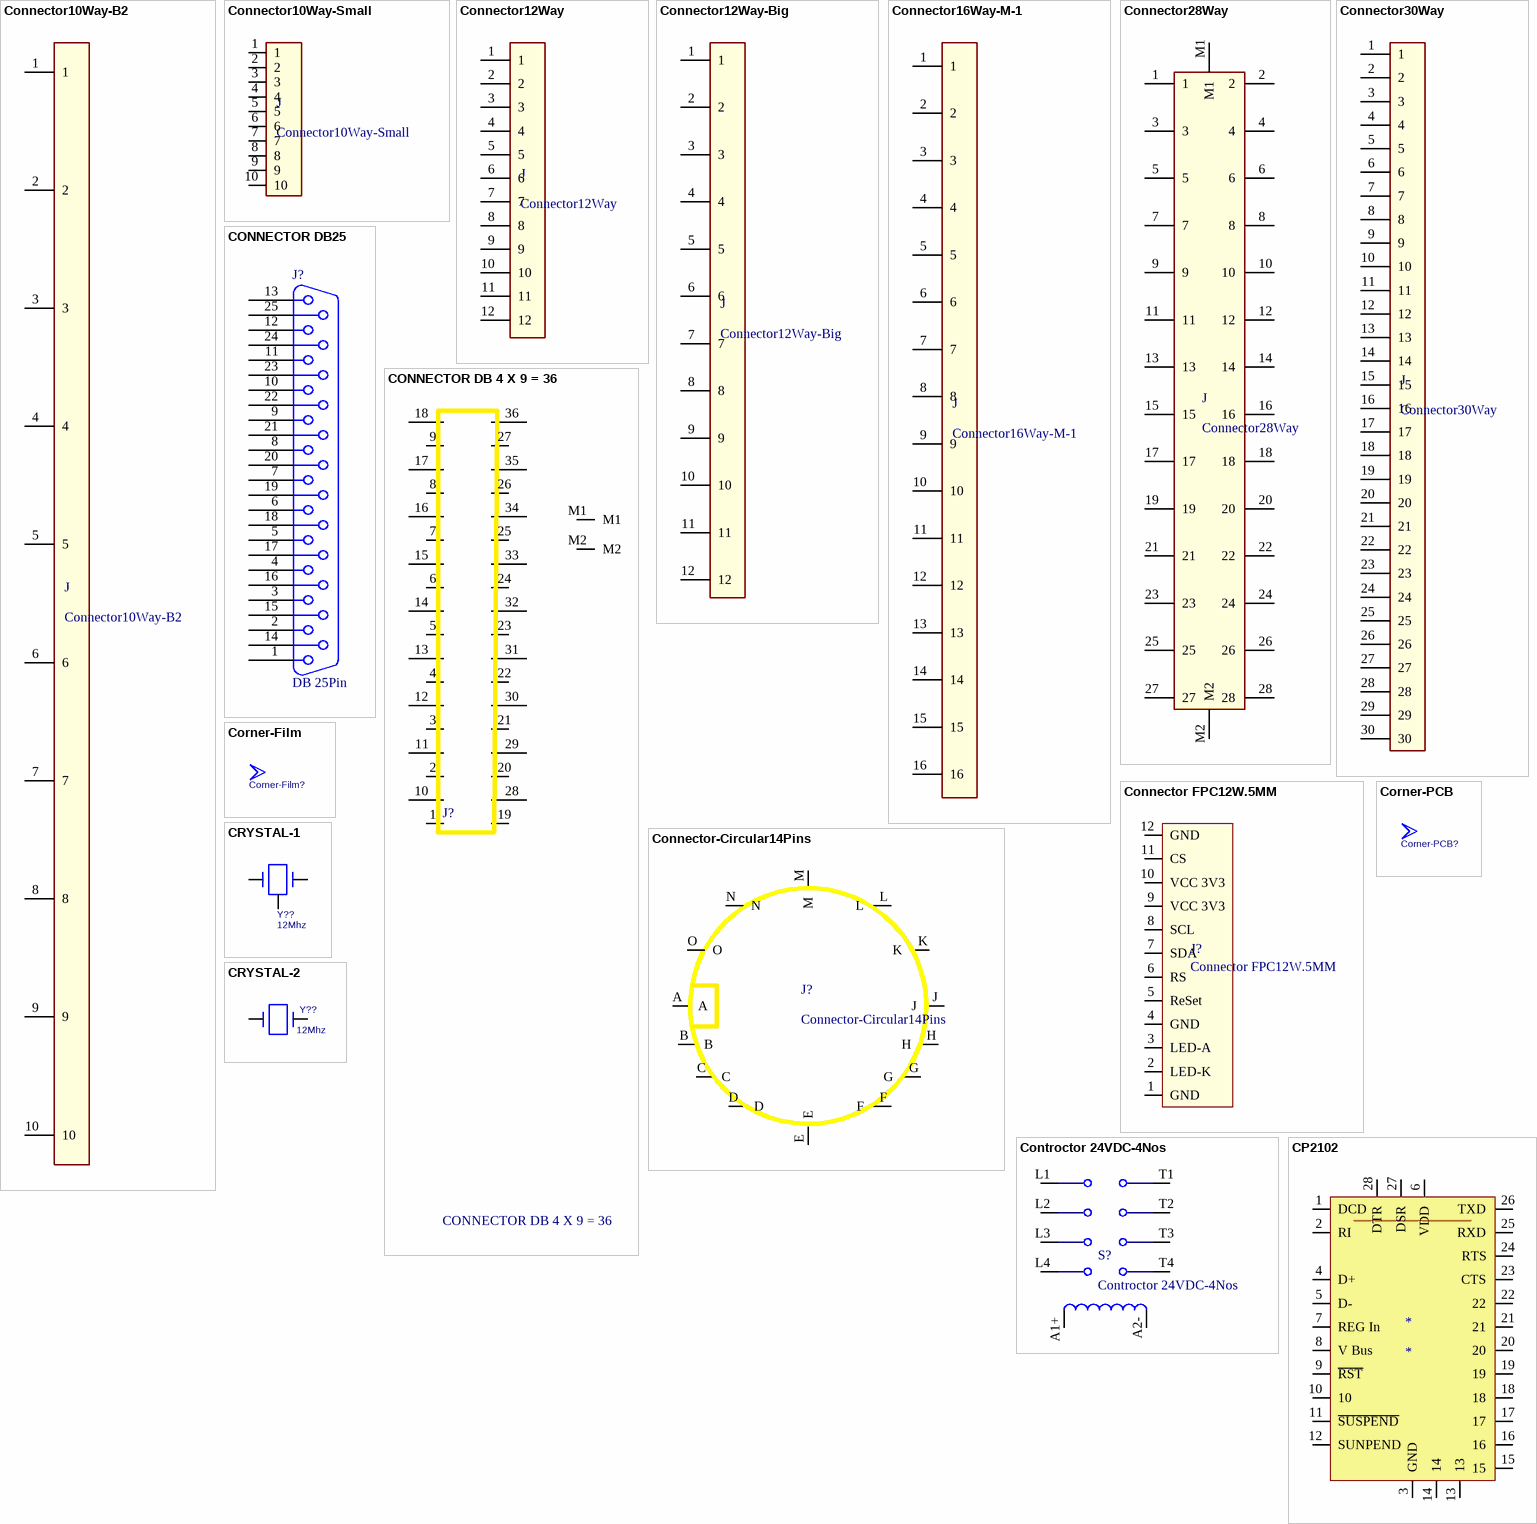
[diagram p12: symbols Connector10Way-B2 to CRYSTAL-2]

## Connector10Way-B2
designator J
footprint RMC10W (RMC10Way Connector 2.54Picth)
pins: 1, 2, 3, 4, 5, 6, 7, 8, 9, 10

## Connector10Way-Small
designator J
footprint RMC10W (RMC10Way Connector 2.54Picth)
pins: 1, 2, 3, 4, 5, 6, 7, 8, 9, 10

## Connector12Way
designator J
pins: 1, 2, 3, 4, 5, 6, 7, 8, 9, 10, 11, 12

## Connector12Way-Big
designator J
pins: 1, 2, 3, 4, 5, 6, 7, 8, 9, 10, 11, 12

## Connector16Way-M-1
designator J
footprint Berg16 (Footprint not found)
pins: 1, 2, 3, 4, 5, 6, 7, 8, 9, 10, 11, 12, 13, 14, 15, 16

## Connector28Way
designator J
pins: 1, 2, 3, 4, 5, 6, 7, 8, 9, 10, 11, 12, 13, 14, 15, 16, 17, 18, 19, 20, 21, 22, 23, 24, 25, 26, 27, 28, M1, M2

## Connector30Way
designator J
pins: 1, 2, 3, 4, 5, 6, 7, 8, 9, 10, 11, 12, 13, 14, 15, 16, 17, 18, 19, 20, 21, 22, 23, 24, 25, 26, 27, 28, 29, 30

## CONNECTOR DB25
designator J?, comment DB 25Pin
pins: 1, 2, 3, 4, 5, 6, 7, 8, 9, 10, 11, 12, 13, 14, 15, 16, 17, 18, 19, 20, 21, 22, 23, 24, 25

## CONNECTOR DB 4 X 9 = 36
designator J?
footprint Connector MDR 36 Striat
pins: 1, 2, 3, 4, 5, 6, 7, 8, 9, 10, 11, 12, 13, 14, 15, 16, 17, 18, 19, 20, 21, 22, 23, 24, 25, 26, 27, 28, 29, 30, 31, 32, 33, 34, 35, 36, M1, M2

## Connector FPC12W.5MM
designator J?
footprint FPC12W.5MM
pins: 1 GND, 2 LED-K, 3 LED-A, 4 GND, 5 ReSet, 6 RS, 7 SDA, 8 SCL, 9 VCC 3V3, 10 VCC 3V3, 11 CS, 12 GND

## Connector-Circular14Pins
designator J?
pins: A, B, C, D, E, F, G, H, J, K, L, M, N, O

## Controctor 24VDC-4Nos
designator S?
pins: A1+, A2-, L1, L2 L, L3, L4, T1, T2, T3, T4

## Corner-Film
designator Corner-Film?  (value not drawn)  (no BOM)
footprint Corner Film

## Corner-PCB
designator Corner-PCB?  (value not drawn)  (no BOM)
footprint Corner PCB

## CP2102
designator *
pins: 1 DCD, 2 RI, 3 GND, 4 D+, 5 D-, 6 VDD, 7 REG In, 8 V Bus, 9 ~{RST}, 10, 11 ~{SUSPEND}, 12 SUNPEND, 13, 14, 15, 16, 17, 18, 19, 20, 21, 22, 23 CTS, 24 RTS, 25 RXD, 26 TXD, 27 DSR, 28 DTR

## CRYSTAL-1
designator Y??, comment 12Mhz
footprint LP3
pins: 1, 2, 3

## CRYSTAL-2
designator Y??, comment 12Mhz
footprint LP3 - 1 (Crystal 1WithOutBody)
pins: 1, 2

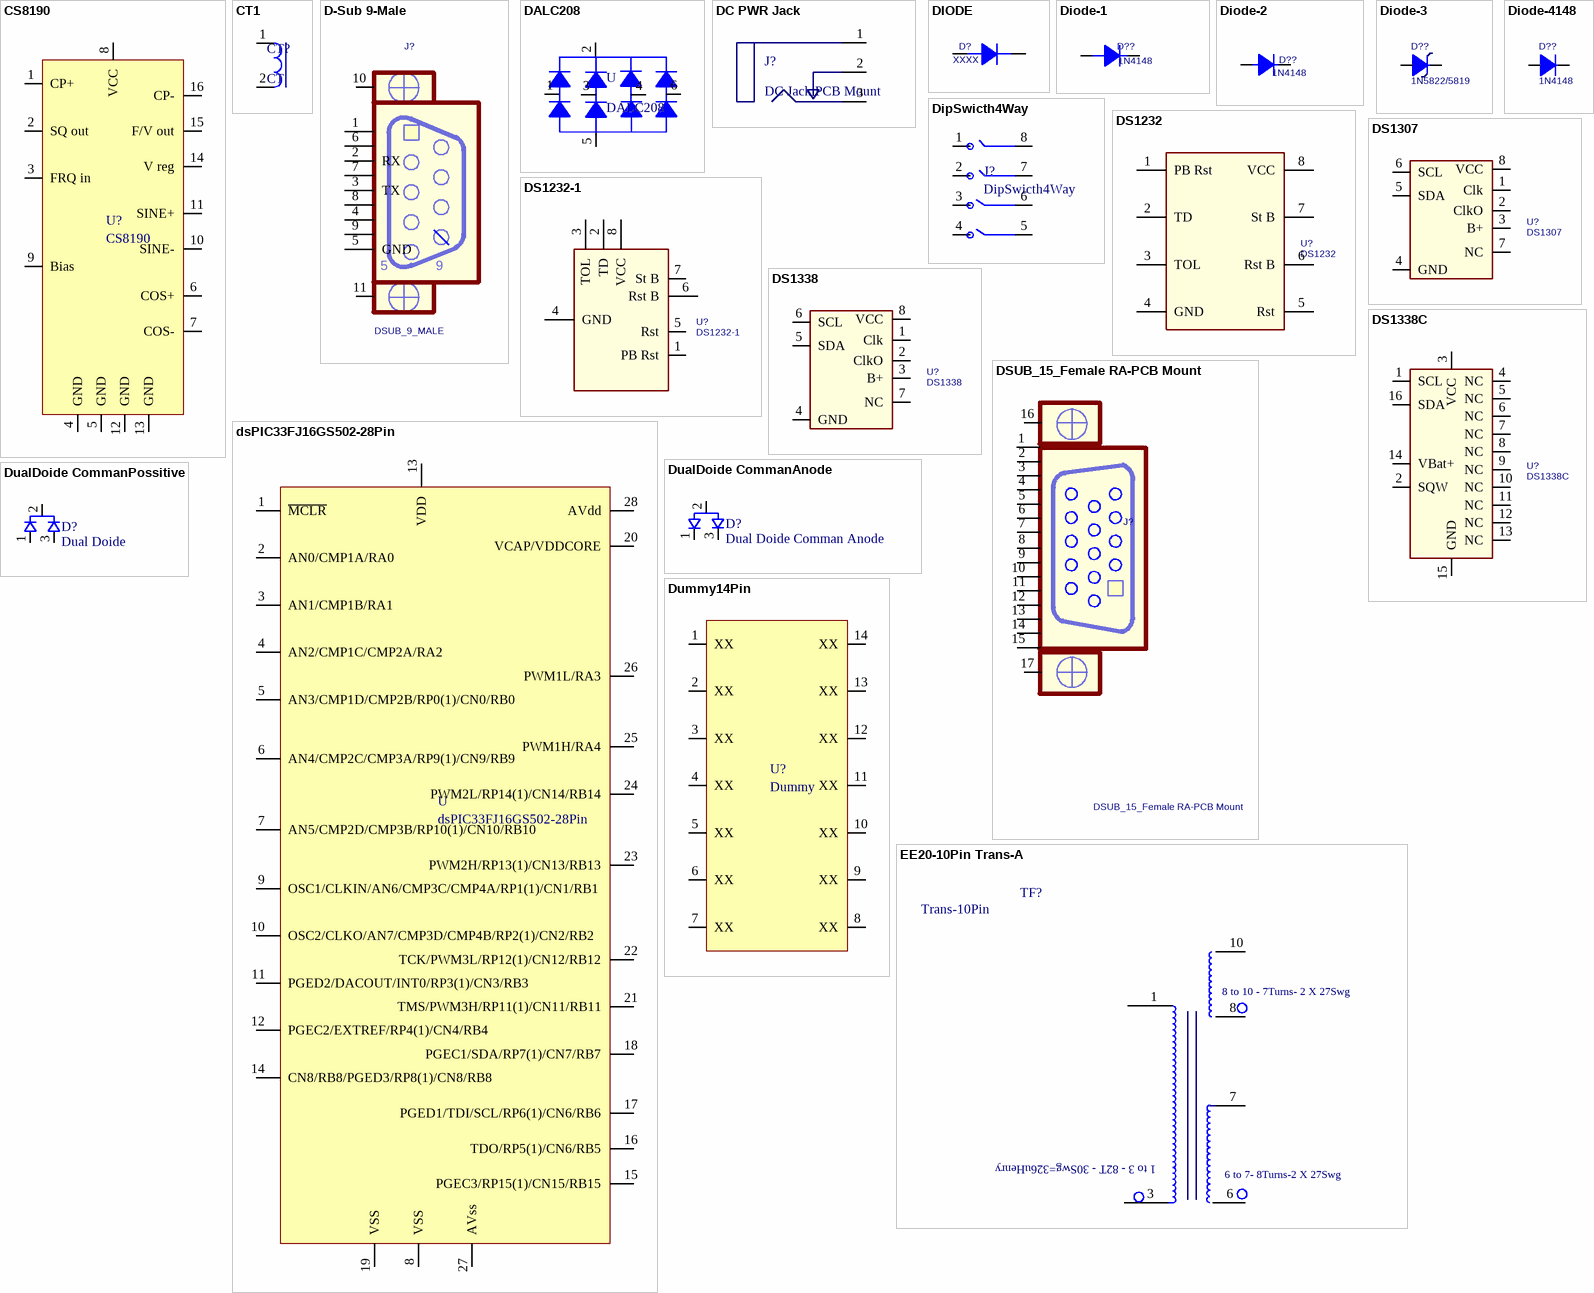
[diagram p13: symbols CS8190 to EE20-10Pin Trans-A]

## CS8190
designator U?
footprint Dip-16
pins: 1 CP+, 2 SQ out, 3 FRQ in, 4 GND, 5 GND, 6 COS+, 7 COS-, 8 VCC, 9 Bias, 10 SINE-, 11 SINE+, 12 GND, 13 GND, 14 V reg, 15 F/V out, 16 CP-

## CT1
designator CT?, comment CT
pins: 1 Start, 2 End

## D-Sub 9-Male
designator J?, comment DSUB_9_MALE
pins: 1, 2 RX, 3 TX, 4, 5 GND, 6, 7, 8, 9, 10 CASE, 11 CASE
text: 5            9

## DALC208
designator U
footprint DALC208 (Doide Arry)
pins: 1, 2, 3, 4, 5, 6

## DC PWR Jack
designator J?, comment DC Jack PCB Mount
footprint DC Jack
pins: 1, 2, 3

## DIODE
designator D?, comment XXXX
footprint Doide10MM
pins: 1, 2

## Diode-1
designator D??, comment 1N4148
pins: 1, 2

## Diode-2
designator D??, comment 1N4148
pins: 1, 2

## Diode-3
designator D??, comment 1N5822/5819
Schottky Diode
footprint Doide10 X 3MM (10MM X 3MM)
pins: 1 Anode, 2 Cothode

## Diode-4148
designator D??, comment 1N4148
footprint Doide10 X 2.5MM (10MM X 2.5MM)
pins: 1 Anode, 2 Cothode

## DipSwicth4Way
designator J?
pins: 1, 2, 3, 4, 5, 6, 7, 8

## DS1232
designator U?
Wacth Dog
pins: 1 PB Rst, 2 TD, 3 TOL, 4 GND, 5 Rst, 6 Rst B, 7 St B, 8 VCC

## DS1232-1
designator U?
Wacth Dog
pins: 1 PB Rst, 2 TD, 3 TOL, 4 GND, 5 Rst, 6 Rst B, 7 St B, 8 VCC

## DS1307
designator U?
I2C  RTC
footprint Dip-8
pins: 1 Clk, 2 ClkO, 3 B+, 4 GND, 5 SDA, 6 SCL, 7 NC, 8 VCC

## DS1338
designator U?
I2C  RTC
footprint SOP-8 (SOP-8 ,1232,24C256)
pins: 1 Clk, 2 ClkO, 3 B+, 4 GND, 5 SDA, 6 SCL, 7 NC, 8 VCC

## DS1338C
designator U?
I2C  RTC
footprint SOP-16 (SOP-16=)
pins: 1 SCL, 2 SQW, 3 VCC, 4 NC, 5 NC, 6 NC, 7 NC, 8 NC, 9 NC, 10 NC, 11 NC, 12 NC, 13 NC, 14 VBat+, 15 GND, 16 SDA

## dsPIC33FJ16GS502-28Pin
designator U
footprint Dip-28 (IC Base 28Pin)
pins: 1 ~{MCLR}, 2 AN0/CMP1A/RA0, 3 AN1/CMP1B/RA1, 4 AN2/CMP1C/CMP2A/RA2, 5 AN3/CMP1D/CMP2B/RP0(1)/CN0/RB0, 6 AN4/CMP2C/CMP3A/RP9(1)/CN9/RB9, 7 AN5/CMP2D/CMP3B/RP10(1)/CN10/RB10, 8 VSS, 9 OSC1/CLKIN/AN6/CMP3C/CMP4A/RP1(1)/CN1/RB1, 10 OSC2/CLKO/AN7/CMP3D/CMP4B/RP2(1)/CN2/RB2, 11 PGED2/DACOUT/INT0/RP3(1)/CN3/RB3, 12 PGEC2/EXTREF/RP4(1)/CN4/RB4, 13 VDD, 14 CN8/RB8/PGED3/RP8(1)/CN8/RB8, 15 PGEC3/RP15(1)/CN15/RB15, 16 TDO/RP5(1)/CN6/RB5, 17 PGED1/TDI/SCL/RP6(1)/CN6/RB6, 18 PGEC1/SDA/RP7(1)/CN7/RB7, 19 VSS, 20 VCAP/VDDCORE, 21 TMS/PWM3H/RP11(1)/CN11/RB11, 22 TCK/PWM3L/RP12(1)/CN12/RB12, 23 PWM2H/RP13(1)/CN13/RB13, 24 PWM2L/RP14(1)/CN14/RB14, 25 PWM1H/RA4, 26 PWM1L/RA3, 27 AVss, 28 AVdd

## DSUB_15_Female RA-PCB Mount
designator J?
footprint DSUB_15_Female RA-PCB Mount (Footprint not found)
pins: 1, 2, 3, 4, 5, 6, 7, 8, 9, 10, 11, 12, 13, 14, 15, 16 CASE, 17 CASE

## DualDoide CommanAnode
designator D?, comment Dual Doide Comman Anode
pins: 1, 2, 3

## DualDoide CommanPossitive
designator D?, comment Dual Doide
pins: 1, 2, 3

## Dummy14Pin
designator U?, comment Dummy
footprint Dip-14
pins: 1 XX, 2 XX, 3 XX, 4 XX, 5 XX, 6 XX, 7 XX, 8 XX, 9 XX, 10 XX, 11 XX, 12 XX, 13 XX, 14 XX

## EE20-10Pin Trans-A
designator TF?, comment Trans-10Pin
EE20-10Pin-MT350
footprint EE20 VERTICAL 5+5PINS
pins: 1, 3, 6, 7, 8, 10
text: 8 to 10 - 7Turns- 2 X 27Swg; 1 to 3 - 82T - 30Swg=326uHenry; 6 to 7- 8Turns-2 X 27Swg

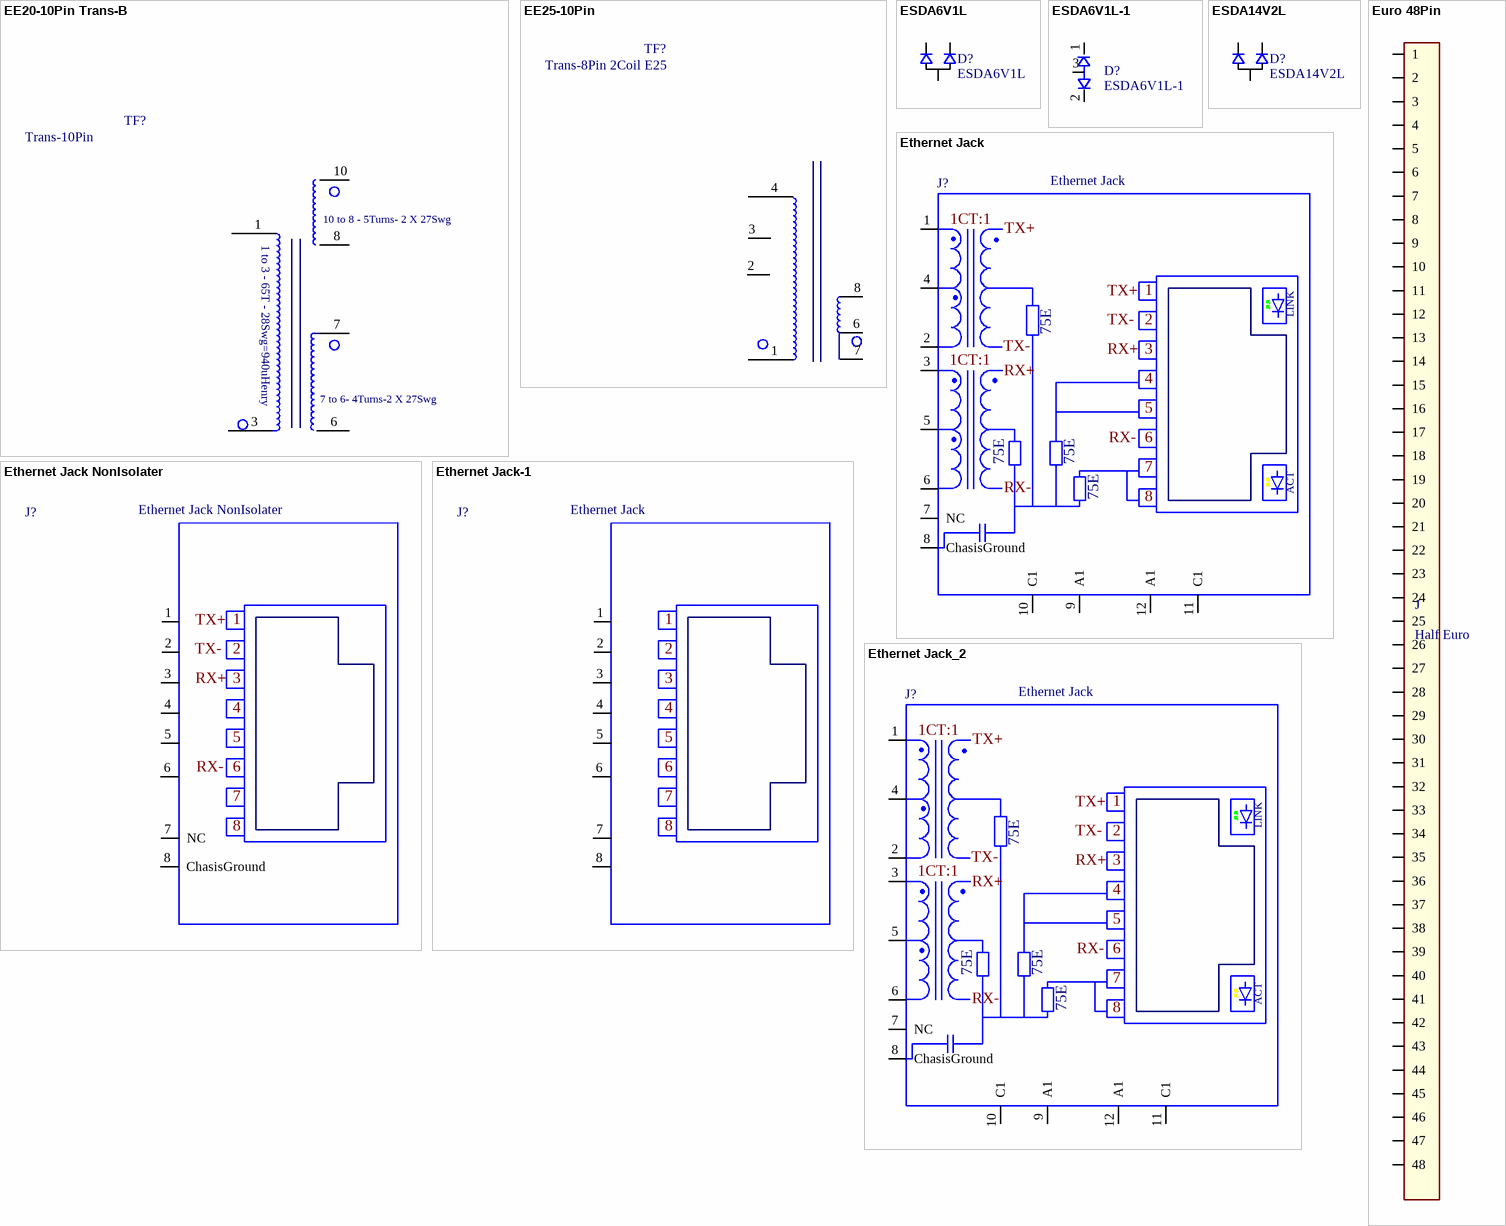
[diagram p14: symbols EE20-10Pin Trans-B to Euro 48Pin]

## EE20-10Pin Trans-B
designator TF?, comment Trans-10Pin
EE20-10Pin-MT365
footprint EE20 VERTICAL 5+5PINS
pins: 1, 3, 6, 7, 8, 10
text: 10 to 8 - 5Turns- 2 X 27Swg; 1 to 3 - 65T - 28Swg=940uHenry; 7 to 6- 4Turns-2 X 27Swg

## EE25-10Pin
designator TF?, comment Trans-8Pin 2Coil E25
pins: 1, 2, 3, 4, 6, 7, 8

## ESDA6V1L
designator D?
footprint SOT23 (SOT23,Transistor,Doide)
footprint SOT23
footprint SOT23
pins: 1, 2, 3

## ESDA6V1L-1
designator D?
footprint SOT23 (SOT23,Transistor,Doide)
footprint SOT23
footprint SOT23
pins: 1, 2, 3

## ESDA14V2L
designator D?
footprint SOT23 (SOT23,Transistor,Doide)
footprint SOT23
footprint SOT23
pins: 1, 2, 3

## Ethernet Jack
designator J?
footprint PulseJackJ0011D21B (EtharnetConnector)
pins: 1, 2, 3, 4, 5, 6, 7 NC, 8 ChasisGround, 9 A1, 10 C1, 11 C1, 12 A1
text: 1CT:1; TX+; LINK; TX-; 75E; RX+; RX-; ACT

## Ethernet Jack NonIsolater
designator J?
footprint PulseJackJ403D (EtharnetConnector)
pins: 1, 2, 3, 4, 5, 6, 7 NC, 8 ChasisGround
text: TX+; TX-; RX+; RX-

## Ethernet Jack-1
designator J?, comment Ethernet Jack
footprint PulseJackJ403D (EtharnetConnector)
pins: 1, 2, 3, 4, 5, 6, 7 NC, 8 ChasisGround

## Ethernet Jack_2
designator J?, comment Ethernet Jack
footprint PulseJackJ0011D21B (EtharnetConnector)
pins: 1, 2, 3, 4, 5, 6, 7 NC, 8 ChasisGround, 9 A1, 10 C1, 11 C1, 12 A1
text: 1CT:1; TX+; LINK; TX-; 75E; RX+; RX-; ACT

## Euro 48Pin
designator J, comment Half Euro
footprint Euro-48-Strait
pins: 1, 2, 3, 4, 5, 6, 7, 8, 9, 10, 11, 12, 13, 14, 15, 16, 17, 18, 19, 20, 21, 22, 23, 24, 25, 26, 27, 28, 29, 30, 31, 32, 33, 34, 35, 36, 37, 38, 39, 40, 41, 42, 43, 44, 45, 46, 47, 48

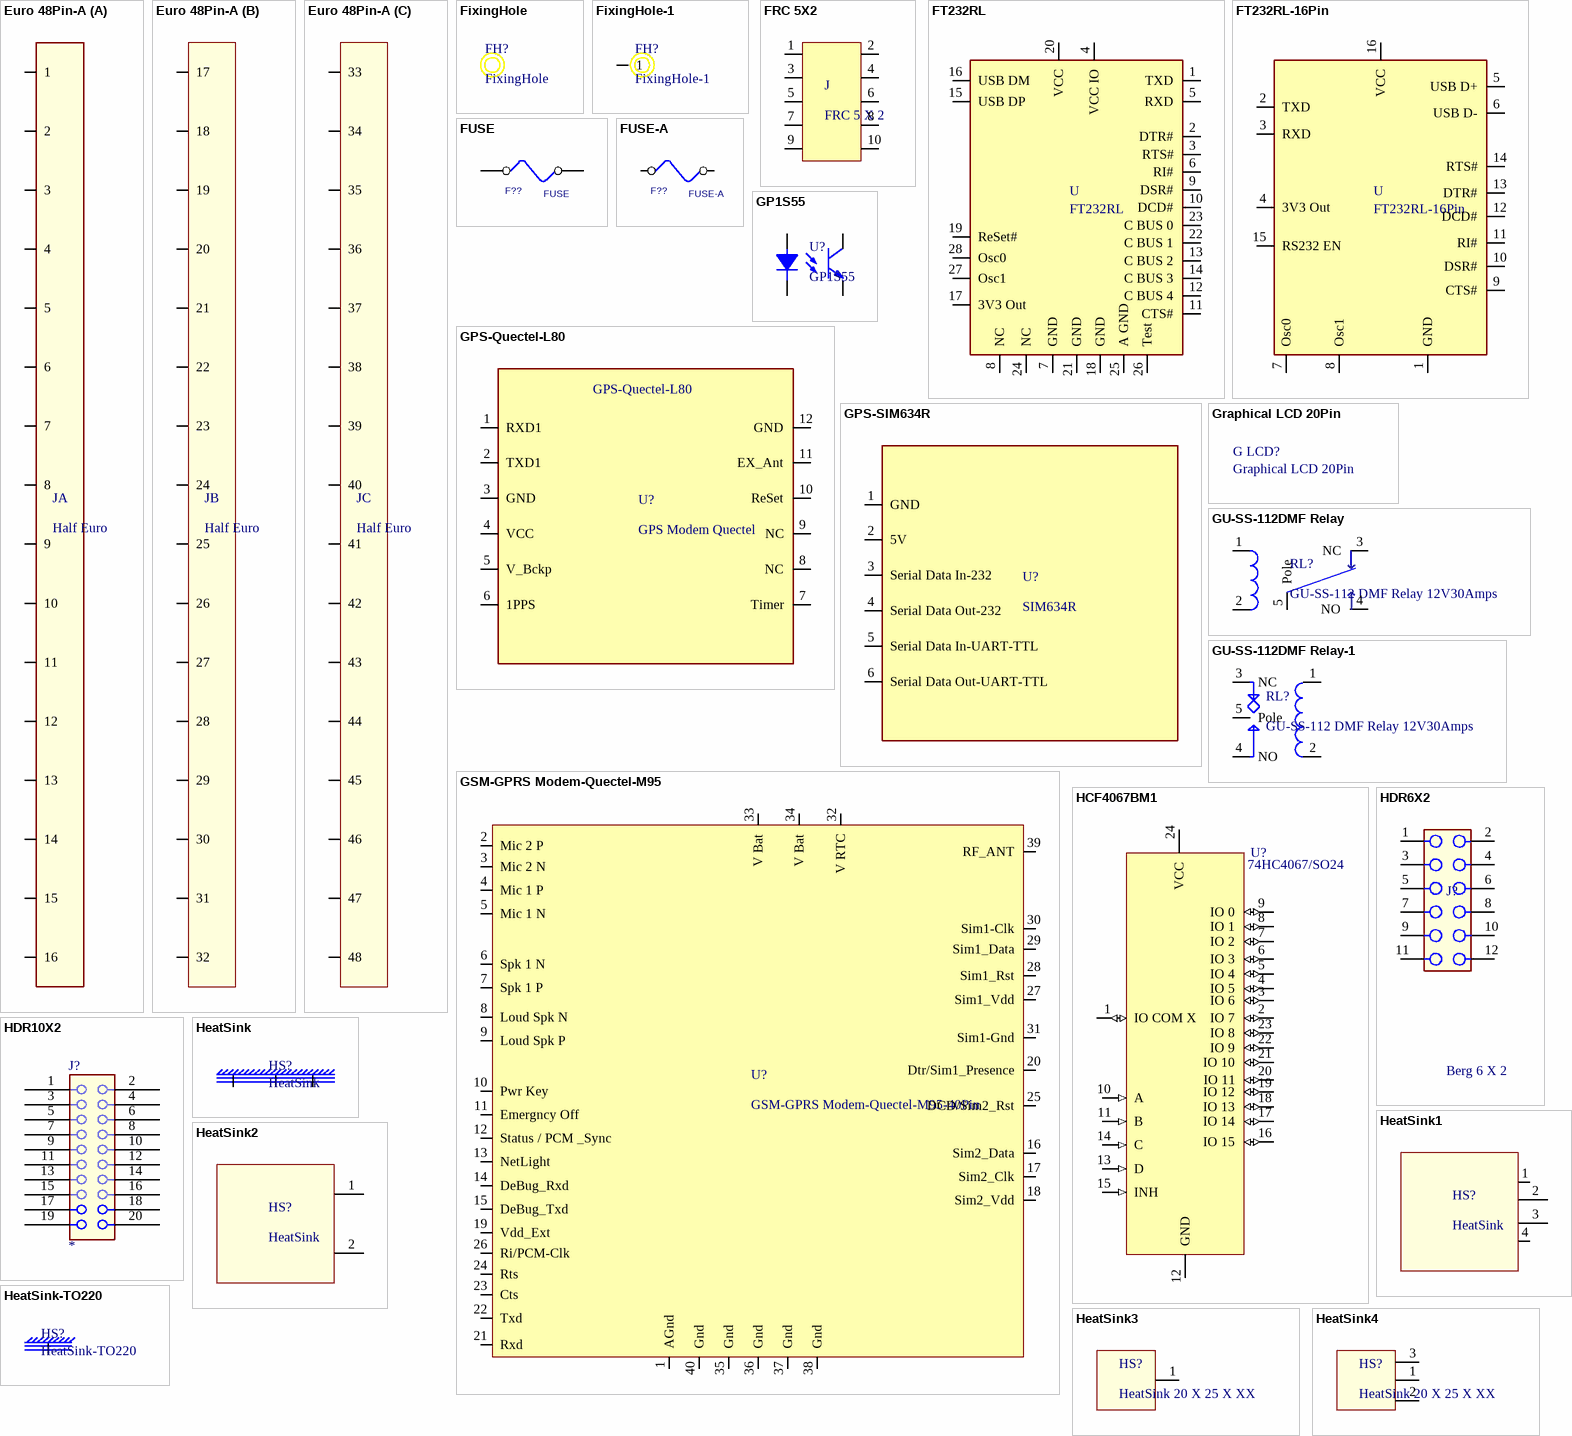
[diagram p15: symbols Euro 48Pin-A to HeatSink-TO220]

## Euro 48Pin-A
designator J, comment Half Euro
footprint Euro-48-Strait
part A pins: 1, 2, 3, 4, 5, 6, 7, 8, 9, 10, 11, 12, 13, 14, 15, 16
part B pins: 17, 18, 19, 20, 21, 22, 23, 24, 25, 26, 27, 28, 29, 30, 31, 32
part C pins: 33, 34, 35, 36, 37, 38, 39, 40, 41, 42, 43, 44, 45, 46, 47, 48

## FixingHole
designator FH?  (no BOM)
footprint FixingHole (Footprint not found)

## FixingHole-1
designator FH?  (no BOM)
footprint FixingHole (Footprint not found)
pins: 1

## FRC 5X2
designator J, comment FRC 5 X 2
pins: 1, 2, 3, 4, 5, 6, 7, 8, 9, 10

## FT232RL
designator U
pins: 1 TXD, 2 DTR#, 3 RTS#, 4 VCC IO, 5 RXD, 6 RI#, 7 GND, 8 NC, 9 DSR#, 10 DCD#, 11 CTS#, 12 C BUS 4, 13 C BUS 2, 14 C BUS 3, 15 USB DP, 16 USB DM, 17 3V3 Out, 18 GND, 19 ReSet#, 20 VCC, 21 GND, 22 C BUS 1, 23 C BUS 0, 24 NC, 25 A GND, 26 Test, 27 Osc1, 28 Osc0

## FT232RL-16Pin
designator U
pins: 1 GND, 2 TXD, 3 RXD, 4 3V3 Out, 5 USB D+, 6 USB D-, 7 Osc0, 8 Osc1, 9 CTS#, 10 DSR#, 11 RI#, 12 DCD#, 13 DTR#, 14 RTS#, 15 RS232 EN, 16 VCC

## FUSE
designator F??
footprint Fuse-22MM
pins: 1, 2

## FUSE-A
designator F??
footprint Fuse-22MM
pins: 1, 2

## GP1S55
designator U?
Opto Sensor
footprint GP1S55 (Opto Sensor Sharp GP1S55)
pins: 1 ANODE, 2 CATHODE, 3 COLLECTOR, 4 EMITTER

## GPS-Quectel-L80
designator U?, comment GPS Modem Quectel
footprint GPS-Quectel-L80 (GPS-L80-Quectel)
pins: 1 RXD1, 2 TXD1, 3 GND, 4 VCC, 5 V_Bckp, 6 1PPS, 7 Timer, 8 NC, 9 NC, 10 ReSet, 11 EX_Ant, 12 GND

## GPS-SIM634R
designator U?, comment SIM634R
pins: 1 GND, 2 5V, 3 Serial Data In-232, 4 Serial Data Out-232, 5 Serial Data In-UART-TTL, 6 Serial Data Out-UART-TTL

## Graphical LCD 20Pin
designator G LCD?

## GSM-GPRS Modem-Quectel-M95
designator U?, comment GSM-GPRS Modem-Quectel-M95-40Pin
footprint GSM-GPRS Modem-Quetel-M95 (GSM-GPRS Modem-Quetel-M95 40Pin)
pins: 1 AGnd, 2 Mic 2 P, 3 Mic 2 N, 4 Mic 1 P, 5 Mic 1 N, 6 Spk 1 N, 7 Spk 1 P, 8 Loud Spk N, 9 Loud Spk P, 10 Pwr Key, 11 Emergncy Off, 12 Status / PCM _Sync, 13 NetLight, 14 DeBug_Rxd, 15 DeBug_Txd, 16 Sim2_Data, 17 Sim2_Clk, 18 Sim2_Vdd, 19 Vdd_Ext, 20 Dtr/Sim1_Presence, 21 Rxd, 22 Txd, 23 Cts, 24 Rts, 25 DCD/Sim2_Rst, 26 Ri/PCM-Clk, 27 Sim1_Vdd, 28 Sim1_Rst, 29 Sim1_Data, 30 Sim1-Clk, 31 Sim1-Gnd, 32 V RTC, 33 V Bat, 34 V Bat, 35 Gnd, 36 Gnd, 37 Gnd, 38 Gnd, 39 RF_ANT, 40 Gnd

## GU-SS-112DMF Relay
designator RL?, comment GU-SS-112 DMF Relay 12V30Amps
pins: 1 Coil1, 2 Coil2, 3 NC, 4 NO, 5 Pole

## GU-SS-112DMF Relay-1
designator RL?, comment GU-SS-112 DMF Relay 12V30Amps
pins: 1 Coil1, 2 Coil2, 3 NC, 4 NO, 5 Pole

## HCF4067BM1
designator U?, comment 74HC4067/SO24
Analog Multiplexer/Demultiplexer
footprint SO24_N (SOIC, 24-Leads, Body 15.4x7.5mm, Pitch 1.27mm, IPC Medium Density)
footprint SO24_L (SOIC, 24-Leads, Body 15.4x7.5mm, Pitch 1.27mm, IPC High Density)
footprint SO24_M (SOIC, 24-Leads, Body 15.4x7.5mm, Pitch 1.27mm, IPC Low Density)
pins: 1 IO COM X (io), 2 IO 7 (io), 3 IO 6 (io), 4 IO 5 (io), 5 IO 4 (io), 6 IO 3 (io), 7 IO 2 (io), 8 IO 1 (io), 9 IO 0 (io), 10 A (in), 11 B (in), 12 GND (power), 13 D (in), 14 C (in), 15 INH (in), 16 IO 15 (io), 17 IO 14 (io), 18 IO 13 (io), 19 IO 12 (io), 20 IO 11 (io), 21 IO 10 (io), 22 IO 9 (io), 23 IO 8 (io), 24 VCC (power)

## HDR6X2
designator J?, comment Berg 6 X 2
Berg
pins: 1, 2, 3, 4, 5, 6, 7, 8, 9, 10, 11, 12

## HDR10X2
designator J?
footprint HDR-10X2-2.54MM
pins: 1, 2, 3, 4, 5, 6, 7, 8, 9, 10, 11, 12, 13, 14, 15, 16, 17, 18, 19, 20

## HeatSink
designator HS?
pins: M1 1, M2 2, M3 3

## HeatSink1
designator HS?, comment HeatSink
pins: 1, 2, 3, 4

## HeatSink2
designator HS?, comment HeatSink
pins: 1, 2

## HeatSink3
designator HS?, comment HeatSink 20 X 25 X XX
footprint HeatSink-1
pins: 1

## HeatSink4
designator HS?, comment HeatSink 20 X 25 X XX
footprint HeatSink-1
pins: 1, 2, 3

## HeatSink-TO220
designator HS?
pins: 1

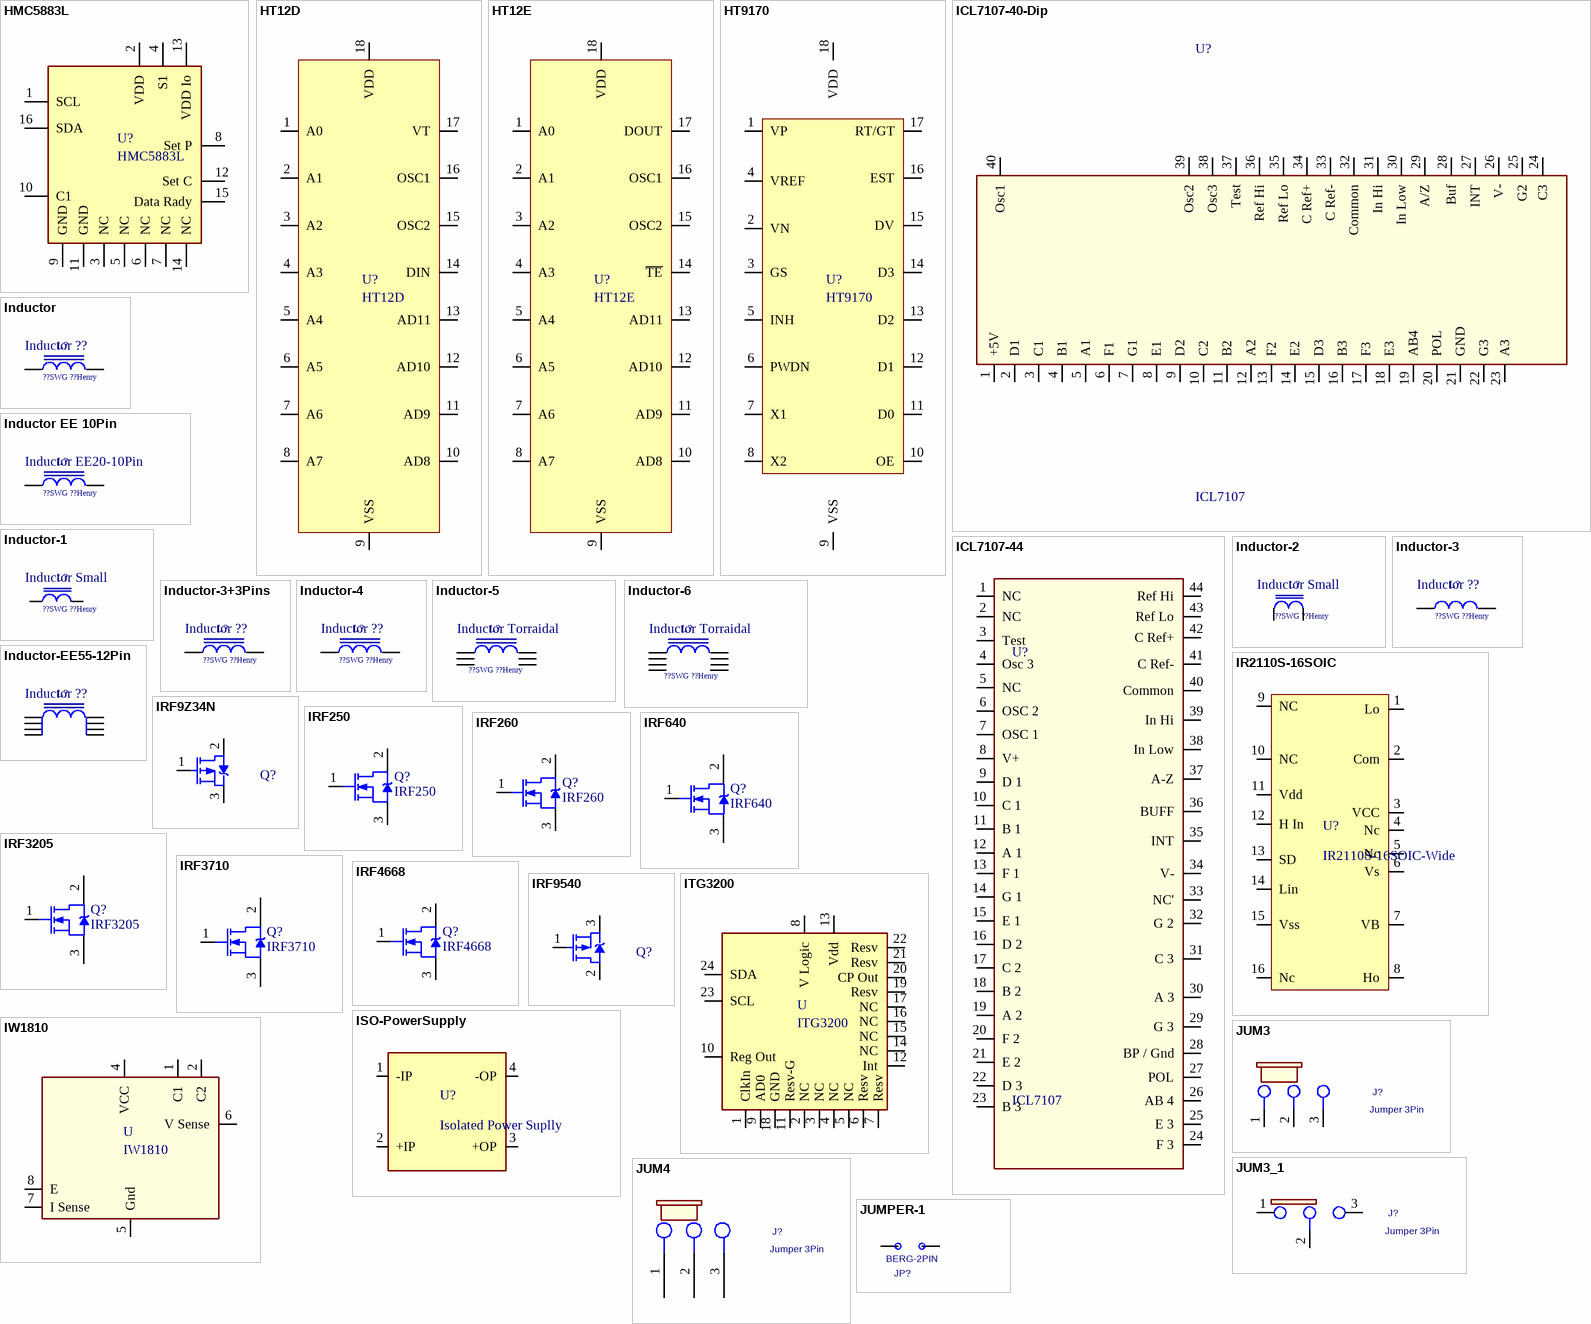
[diagram p16: symbols HMC5883L to JUMPER-1]

## HMC5883L
designator U?
MotorDriver
pins: 1 SCL, 2 VDD, 3 NC, 4 S1, 5 NC, 6 NC, 7 NC, 8 Set P, 9 GND, 10 C1, 11 GND, 12 Set C, 13 VDD Io, 14 NC, 15 Data Rady, 16 SDA

## HT12D
designator U?
pins: 1 A0, 2 A1, 3 A2, 4 A3, 5 A4, 6 A5, 7 A6, 8 A7, 9 VSS, 10 AD8, 11 AD9, 12 AD10, 13 AD11, 14 DIN, 15 OSC2, 16 OSC1, 17 VT, 18 VDD

## HT12E
designator U?
pins: 1 A0, 2 A1, 3 A2, 4 A3, 5 A4, 6 A5, 7 A6, 8 A7, 9 VSS, 10 AD8, 11 AD9, 12 AD10, 13 AD11, 14 ~{TE}, 15 OSC2, 16 OSC1, 17 DOUT, 18 VDD

## HT9170
designator U?
pins: 1 VP, 2 VN, 3 GS, 4 VREF, 5 INH, 6 PWDN, 7 X1, 8 X2, 9 VSS, 10 OE, 11 D0, 12 D1, 13 D2, 14 D3, 15 DV, 16 EST, 17 RT/GT, 18 VDD

## ICL7107-40-Dip
designator U?, comment ICL7107
footprint DIP-40
pins: 1 +5V, 2 D1, 3 C1, 4 B1, 5 A1, 6 F1, 7 G1, 8 E1, 9 D2, 10 C2, 11 B2, 12 A2, 13 F2, 14 E2, 15 D3, 16 B3, 17 F3, 18 E3, 19 AB4, 20 POL, 21 GND, 22 G3, 23 A3, 24 C3, 25 G2, 26 V-, 27 INT, 28 Buf, 29 A/Z, 30 In Low, 31 In Hi, 32 Common, 33 C Ref-, 34 C Ref+, 35 Ref Lo, 36 Ref Hi, 37 Test, 38 Osc3, 39 Osc2, 40 Osc1

## ICL7107-44
designator U?, comment ICL7107
pins: 1 NC, 2 NC, 3 Test, 4 Osc 3, 5 NC, 6 OSC 2, 7 OSC 1, 8 V+, 9 D 1, 10 C 1, 11 B 1, 12 A 1, 13 F 1, 14 G 1, 15 E 1, 16 D 2, 17 C 2, 18 B 2, 19 A 2, 20 F 2, 21 E 2, 22 D 3, 23 B 3, 24 F 3, 25 E 3, 26 AB 4, 27 POL, 28 BP / Gnd, 29 G 3, 30 A 3, 31 C 3, 32 G 2, 33 NC', 34 V-, 35 INT, 36 BUFF, 37 A-Z, 38 In Low, 39 In Hi, 40 Common, 41 C Ref-, 42 C Ref+, 43 Ref Lo, 44 Ref Hi

## Inductor
designator L?, comment Inductor ??
footprint Inductor 6mm Dai (Inductor6 MM Dai)
pins: 1, 2
text: ??SWG ??Henry

## Inductor EE 10Pin
designator L?, comment Inductor EE20-10Pin
footprint EE20 VERTICAL 5+5PINS
pins: 1, 2, 3, 4, 5, 6, 7, 8, 9, 10
text: ??SWG ??Henry

## Inductor-1
designator L?, comment Inductor Small
footprint Inductor5MM (Inductor 5MM)
pins: 1, 2
text: ??SWG ??Henry

## Inductor-2
designator L?, comment Inductor Small
footprint Inductor5MM (Inductor 5MM)
pins: 1, 2
text: ??SWG ??Henry

## Inductor-3
designator L?, comment Inductor ??
footprint Inductor 6mm Dai (Inductor6 MM Dai)
pins: 1, 2
text: ??SWG ??Henry

## Inductor-3+3Pins
designator L?, comment Inductor ??
pins: 1, 2, 3, 4, 5, 6
text: ??SWG ??Henry

## Inductor-4
designator L?, comment Inductor ??
footprint EE25 VERTICAL 4+4PINS
pins: 1, 2, 3, 4, 5, 6, 7, 8
text: ??SWG ??Henry

## Inductor-5
designator L?, comment Inductor Torraidal
pins: 1, 2, 3, 4, 5, 6
text: ??SWG ??Henry

## Inductor-6
designator L?, comment Inductor Torraidal
footprint Inductor Torradal (Inductor Torradal 33Dai Dual)
pins: 1, 2, 3, 4, 5, 6, 7, 8
text: ??SWG ??Henry

## Inductor-EE55-12Pin
designator L?, comment Inductor ??
footprint FerretCore EE 55 X 55 X 20MM-12Pins
pins: 1, 2, 5, 6, 7, 8, 11, 12

## IR2110S-16SOIC
designator U?, comment IR2110S-16SOIC-Wide
IR2110S-16SOIC-Wide  Mosfet Driver
pins: 1 Lo, 2 Com, 3 VCC, 4 Nc, 5 Nc, 6 Vs, 7 VB, 8 Ho, 9 NC, 10 NC, 11 Vdd, 12 H In, 13 SD, 14 Lin, 15 Vss, 16 Nc

## IRF9Z34N
designator Q?, comment IRF9Z34N PChannel MOSFET  (value not drawn)
Repetitive Avalanche and dv/dt Rated HEXFET Transistor
footprint TO220+HeatSink (Footprint not found)
pins: 1 G, 2 D, 3 S

## IRF250
designator Q?
Repetitive Avalanche and dv/dt Rated HEXFET Transistor
footprint TO220+HeatSink (Footprint not found)
pins: 1 G, 2 D, 3 S

## IRF260
designator Q?
Repetitive Avalanche and dv/dt Rated HEXFET Transistor
footprint IRF260-TO247-90Degree (MOSFET-200V-50Amps-90Degree Bend)
pins: 1 G, 2 D, 3 S

## IRF640
designator Q?
Repetitive Avalanche and dv/dt Rated HEXFET Transistor
footprint TO220+HeatSink (Footprint not found)
pins: 1 G, 2 D, 3 S

## IRF3205
designator Q?
Repetitive Avalanche and dv/dt Rated HEXFET Transistor
pins: 1 G, 2 D, 3 S

## IRF3710
designator Q?
Repetitive Avalanche and dv/dt Rated HEXFET Transistor
footprint TO220+HeatSink (Footprint not found)
pins: 1 G, 2 D, 3 S

## IRF4668
designator Q?
Repetitive Avalanche and dv/dt Rated HEXFET Transistor
footprint IRF260-TO247-90Degree (MOSFET-200V-50Amps-90Degree Bend)
pins: 1 G, 2 D, 3 S

## IRF9540
designator Q?, comment IRF9540 PChannel MOSFET  (value not drawn)
footprint TO220-3Pin-Leaded - Bottam (TO220-3Pin-Bottom Side)
pins: 1 G, 2 D, 3 S

## ISO-PowerSupply
designator U?, comment Isolated Power Suplly
pins: 1 -IP, 2 +IP, 3 +OP, 4 -OP

## ITG3200
designator U
pins: 1 ClkIn, 2 NC, 3 NC, 4 NC, 5 NC, 6 Resv, 7 Resv, 8 V Logic, 9 AD0, 10 Reg Out, 11 Resv-G, 12 Int, 13 Vdd, 14 NC, 15 NC, 16 NC, 17 NC, 18 GND, 19 Resv, 20 CP Out, 21 Resv, 22 Resv, 23 SCL, 24 SDA

## IW1810
designator U
pins: 1 C1, 2 C2, 4 VCC, 5 Gnd, 6 V Sense, 7 I Sense, 8 E

## JUM3
designator J?, comment Jumper 3Pin
pins: 1, 2, 3

## JUM3_1
designator J?, comment Jumper 3Pin
footprint Berg3Pin (Single Line 3Pin Berg 2.54Picth)
pins: 1, 2, 3

## JUM4
designator J?, comment Jumper 3Pin
pins: 1, 2, 3

## JUMPER-1
designator JP?, comment BERG-2PIN
footprint Berg2PIN (Single Line 2Pin Berg 2.54Picth)
pins: 1, 2

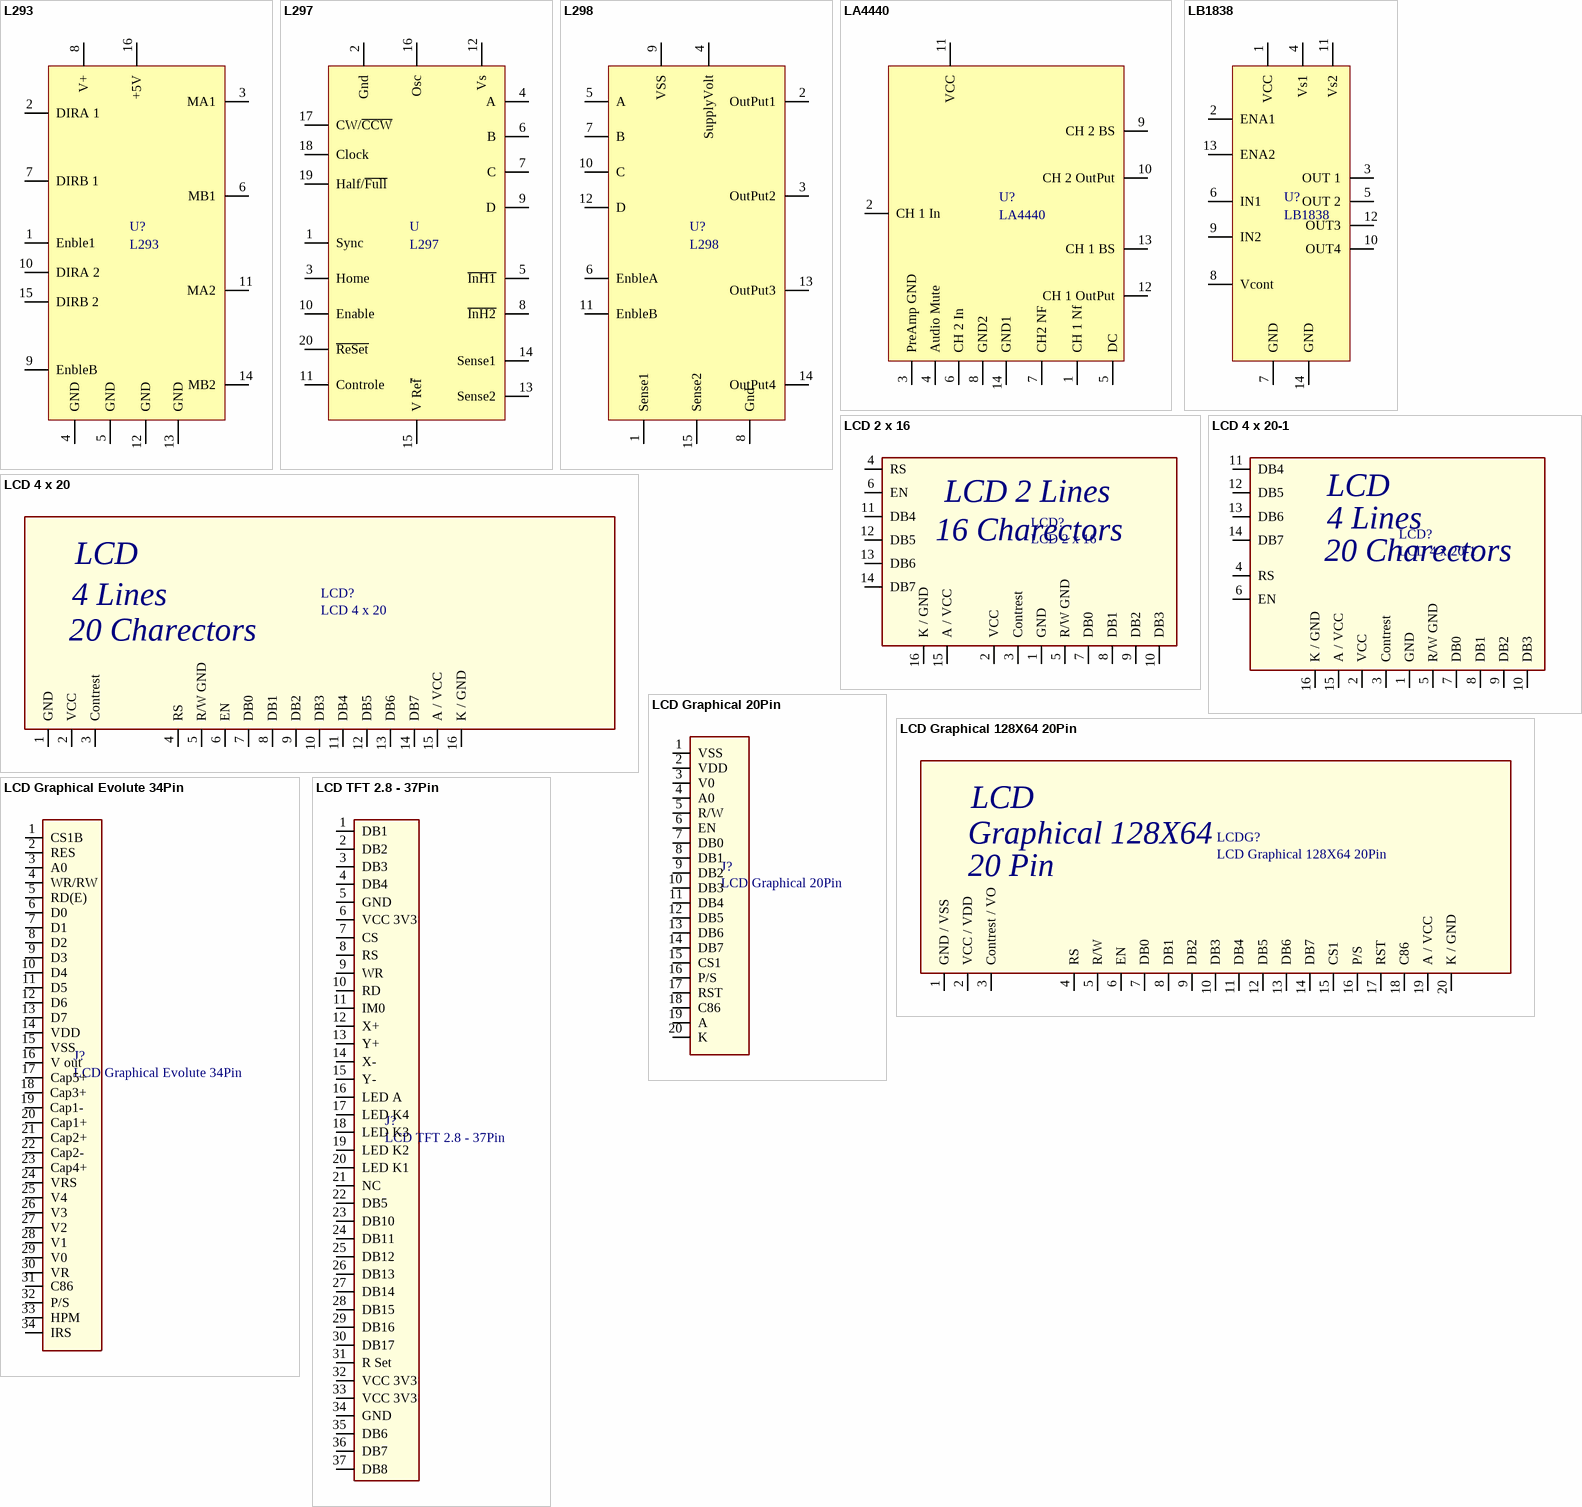
[diagram p17: symbols L293 to LCD TFT 2.8 - 37Pin]

## L293
designator U?
MotorDriver
pins: 1 Enble1, 2 DIRA 1, 3 MA1, 4 GND, 5 GND, 6 MB1, 7 DIRB 1, 8 V+, 9 EnbleB, 10 DIRA 2, 11 MA2, 12 GND, 13 GND, 14 MB2, 15 DIRB 2, 16 +5V

## L297
designator U
pins: 1 Sync, 2 Gnd, 3 Home, 4 A, 5 ~{InH1}, 6 B, 7 C, 8 ~{InH2}, 9 D, 10 Enable, 11 Controle, 12 Vs, 13 Sense2, 14 Sense1, 15 V Re~{f}, 16 Osc, 17 CW/~{CCW}, 18 Clock, 19 Half/~{Full}, 20 ~{ReSet}

## L298
designator U?
pins: 1 Sense1, 2 OutPut1, 3 OutPut2, 4 SupplyVolt, 5 A, 6 EnbleA, 7 B, 8 Gnd, 9 VSS, 10 C, 11 EnbleB, 12 D, 13 OutPut3, 14 OutPut4, 15 Sense2

## LA4440
designator U?
pins: 1 CH 1 Nf, 2 CH 1 In, 3 PreAmp GND, 4 Audio Mute, 5 DC, 6 CH 2 In, 7 CH2 NF, 8 GND2, 9 CH 2 BS, 10 CH 2 OutPut, 11 VCC, 12 CH 1 OutPut, 13 CH 1 BS, 14 GND1

## LB1838
designator U?
pins: 1 VCC, 2 ENA1, 3 OUT 1, 4 Vs1, 5 OUT 2, 6 IN1, 7 GND, 8 Vcont, 9 IN2, 10 OUT4, 11 Vs2, 12 OUT3, 13 ENA2, 14 GND

## LCD 2 x 16
designator LCD?
footprint LCD 2 X 16 BonaMC1602 (LCD 16 X 2 Lines)
pins: 1 GND, 2 VCC, 3 Contrest, 4 RS, 5 R/W GND, 6 EN, 7 DB0, 8 DB1, 9 DB2, 10 DB3, 11 DB4, 12 DB5, 13 DB6, 14 DB7, 15 A / VCC, 16 K / GND
text: LCD 2 Lines; 16 Charectors

## LCD 4 x 20
designator LCD?
footprint LCD 4 X 20
pins: 1 GND, 2 VCC, 3 Contrest, 4 RS, 5 R/W GND, 6 EN, 7 DB0, 8 DB1, 9 DB2, 10 DB3, 11 DB4, 12 DB5, 13 DB6, 14 DB7, 15 A / VCC, 16 K / GND
text: LCD; 4 Lines; 20 Charectors

## LCD 4 x 20-1
designator LCD?
footprint LCD 4 X 20
pins: 1 GND, 2 VCC, 3 Contrest, 4 RS, 5 R/W GND, 6 EN, 7 DB0, 8 DB1, 9 DB2, 10 DB3, 11 DB4, 12 DB5, 13 DB6, 14 DB7, 15 A / VCC, 16 K / GND
text: LCD; 4 Lines; 20 Charectors